# Altium integrated library Xilinx Aerospace and Defense.IntLib: 197 symbols (part 3 of 56)
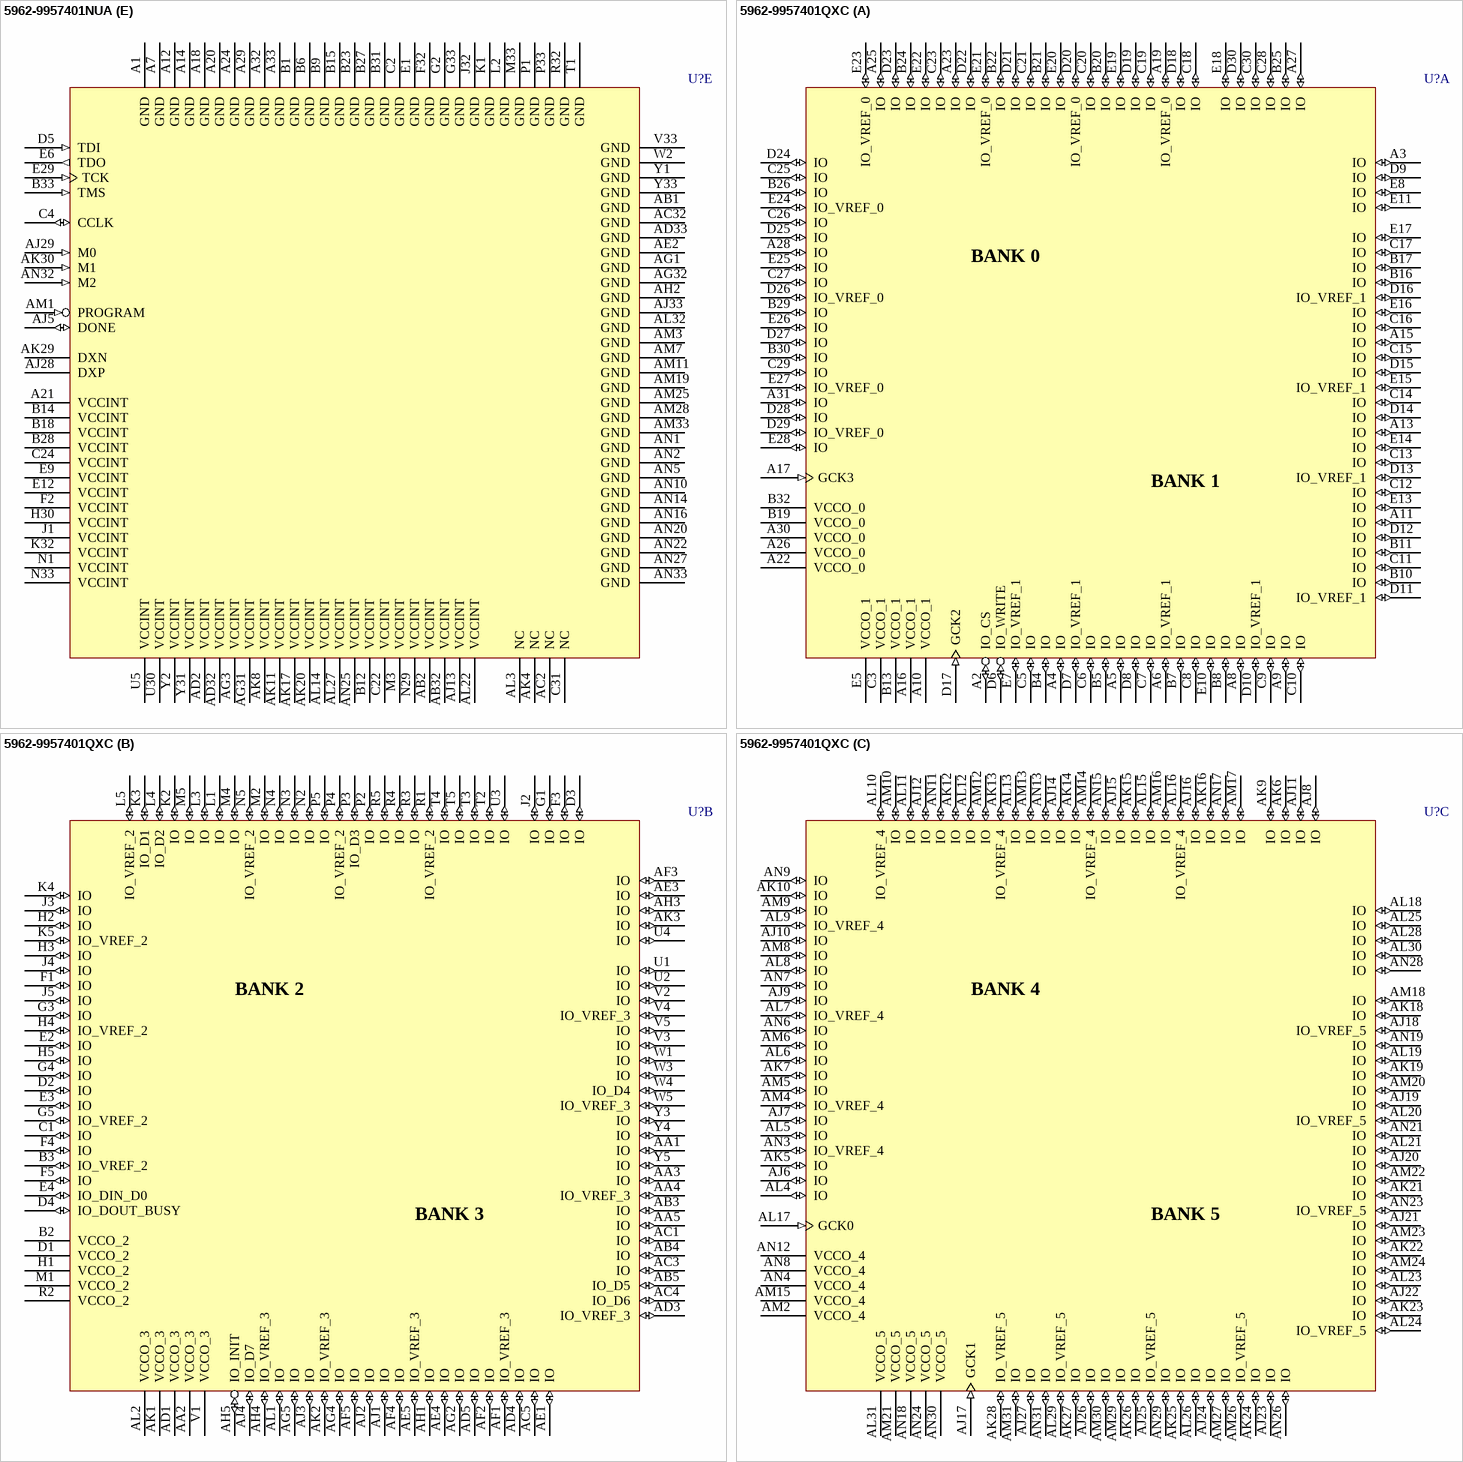
[diagram p320: symbols 5962-9957401NUA to 5962-9957401QXC]

## 5962-9957401NUA
designator U?
QPro Virtex 2.5V QML High-Reliability FPGA, SMD Number for XQV1000-4BG560N, 404 User I/Os, 560-Pin BGA, Speed Grade 4, MIL-PRF-38535 Grade; Published: 17-Nov-2009; DatasheetVersion: ver1.5, Dec-2001; PackageVersion: ver1.1, Apr-2001; PackageReference: BG560; Publisher: Altium Limited; PackageDescription: 560-Ball Metal Ball Grid Array (BG560); Code_JEDEC: MO-192-BAV-1 (Depopulated); ComponentLink1Description: QPro Virtex Datasheet; ComponentLink1URL: http://www.xilinx.com/support/documentation/data_sheets/ds002.pdf; ComponentLink2Description: BG560 Package Drawing; ComponentLink2URL: http://www.xilinx.com/support/documentation/package_specs/bg560.pdf; ComponentLink3Description: Xilinx.com Home; ComponentLink3URL: http://www.xilinx.com
footprint BG560 (BGA, 560-Leads, Body 42.5x42.5mm, Pitch 1.27mm)
signal-integrity model 5962-9957401_BG560 (Virtex)
part A pins: A2 IO_CS (io), A3 IO (io), A4 IO (io), A5 IO (io), A6 IO_VREF_1 (io), A8 IO (io), A9 IO (io), A10 VCCO_1 (power), A11 IO (io), A13 IO (io), A15 IO (io), A16 VCCO_1 (power), A17 GCK3 (in), A19 IO_VREF_0 (io), A22 VCCO_0 (power), A23 IO (io), A25 IO (io), A26 VCCO_0 (power), A27 IO (io), A28 IO (io), A30 VCCO_0 (power), A31 IO (io), B4 IO (io), B5 IO (io), B7 IO (io), B8 IO (io), B10 IO (io), B11 IO (io), B13 VCCO_1 (power), B16 IO (io), B17 IO (io), B19 VCCO_0 (power), B20 IO (io), B21 IO (io), B22 IO (io), B24 IO (io), B25 IO (io), B26 IO (io), B29 IO (io), B30 IO (io), B32 VCCO_0 (power), C3 VCCO_1 (power), C5 IO (io), C6 IO (io), C7 IO (io), C8 IO (io), C9 IO (io), C10 IO (io), C11 IO (io), C12 IO (io), C13 IO (io), C14 IO (io), C15 IO (io), C16 IO (io), C17 IO (io), C18 IO (io), C19 IO (io), C20 IO (io), C21 IO (io), C23 IO (io), C25 IO (io), C26 IO (io), C27 IO (io), C28 IO (io), C29 IO (io), C30 IO (io), D6 IO_WRITE (io), D7 IO_VREF_1 (io), D8 IO (io), D9 IO (io), D10 IO_VREF_1 (io), D11 IO_VREF_1 (io), D12 IO (io), D13 IO_VREF_1 (io), D14 IO (io), D15 IO (io), D16 IO_VREF_1 (io), D17 GCK2 (in), D18 IO (io), D19 IO (io), D20 IO_VREF_0 (io), D21 IO (io), D22 IO (io), D23 IO (io), D24 IO (io), D25 IO (io), D26 IO_VREF_0 (io), D27 IO (io), D28 IO (io), D29 IO_VREF_0 (io), D30 IO (io), E5 VCCO_1 (power), E7 IO_VREF_1 (io), E8 IO (io), E10 IO (io), E11 IO (io), E13 IO (io), E14 IO (io), E15 IO_VREF_1 (io), E16 IO (io), E17 IO (io), E18 IO (io), E19 IO (io), E20 IO (io), E21 IO_VREF_0 (io), E22 IO (io), E23 IO_VREF_0 (io), E24 IO_VREF_0 (io), E25 IO (io), E26 IO (io), E27 IO_VREF_0 (io), E28 IO (io)
part B pins: AA1 IO (io), AA2 VCCO_3 (power), AA3 IO (io), AA4 IO_VREF_3 (io), AA5 IO (io), AB3 IO (io), AB4 IO (io), AB5 IO_D5 (io), AC1 IO (io), AC3 IO (io), AC4 IO_D6 (io), AC5 IO (io), AD1 VCCO_3 (power), AD3 IO_VREF_3 (io), AD4 IO (io), AD5 IO (io), AE1 IO (io), AE3 IO (io), AE4 IO (io), AE5 IO_VREF_3 (io), AF1 IO_VREF_3 (io), AF2 IO (io), AF3 IO (io), AF4 IO (io), AF5 IO (io), AG2 IO (io), AG4 IO (io), AG5 IO (io), AH1 IO (io), AH3 IO (io), AH4 IO_VREF_3 (io), AH5 IO_INIT (io), AJ1 IO (io), AJ2 IO (io), AJ3 IO (io), AJ4 IO_D7 (io), AK1 VCCO_3 (power), AK2 IO_VREF_3 (io), AK3 IO (io), AL1 IO (io), AL2 VCCO_3 (power), B2 VCCO_2 (power), B3 IO_VREF_2 (io), C1 IO (io), D1 VCCO_2 (power), D2 IO (io), D3 IO (io), D4 IO_DOUT_BUSY (io), E2 IO (io), E3 IO (io), E4 IO_DIN_D0 (io), F1 IO (io), F3 IO (io), F4 IO (io), F5 IO (io), G1 IO (io), G3 IO (io), G4 IO (io), G5 IO_VREF_2 (io), H1 VCCO_2 (power), H2 IO (io), H3 IO (io), H4 IO_VREF_2 (io), H5 IO (io), J2 IO (io), J3 IO (io), J4 IO (io), J5 IO (io), K2 IO (io), K3 IO_D1 (io), K4 IO (io), K5 IO_VREF_2 (io), L1 IO (io), L3 IO (io), L4 IO_D2 (io), L5 IO_VREF_2 (io), M1 VCCO_2 (power), M2 IO (io), M4 IO (io), M5 IO (io), N2 IO (io), N3 IO (io), N4 IO (io), N5 IO_VREF_2 (io), P2 IO (io), P3 IO_D3 (io), P4 IO_VREF_2 (io), P5 IO (io), R1 IO_VREF_2 (io), R2 VCCO_2 (power), R3 IO (io), R4 IO (io), R5 IO (io), T2 IO (io), T3 IO (io), T4 IO (io), T5 IO (io), U1 IO (io), U2 IO (io), U3 IO (io), U4 IO (io), V1 VCCO_3 (power), V2 IO (io), V3 IO (io), V4 IO_VREF_3 (io), V5 IO (io), W1 IO (io), W3 IO (io), W4 IO_D4 (io), W5 IO_VREF_3 (io), Y3 IO (io), Y4 IO (io), Y5 IO (io)
part C pins: AJ6 IO (io), AJ7 IO (io), AJ8 IO (io), AJ9 IO (io), AJ10 IO (io), AJ11 IO (io), AJ12 IO (io), AJ14 IO (io), AJ15 IO (io), AJ16 IO (io), AJ17 GCK1 (in), AJ18 IO_VREF_5 (io), AJ19 IO (io), AJ20 IO (io), AJ21 IO (io), AJ22 IO (io), AJ23 IO (io), AJ24 IO (io), AJ25 IO_VREF_5 (io), AJ26 IO (io), AJ27 IO (io), AK5 IO (io), AK6 IO (io), AK7 IO (io), AK9 IO (io), AK10 IO (io), AK12 IO (io), AK13 IO_VREF_4 (io), AK14 IO (io), AK15 IO (io), AK16 IO (io), AK18 IO (io), AK19 IO (io), AK21 IO (io), AK22 IO (io), AK23 IO (io), AK24 IO (io), AK25 IO (io), AK26 IO (io), AK27 IO (io), AK28 IO_VREF_5 (io), AL4 IO (io), AL5 IO (io), AL6 IO (io), AL7 IO_VREF_4 (io), AL8 IO (io), AL9 IO_VREF_4 (io), AL10 IO_VREF_4 (io), AL11 IO (io), AL12 IO (io), AL13 IO (io), AL15 IO (io), AL16 IO_VREF_4 (io), AL17 GCK0 (in), AL18 IO (io), AL19 IO (io), AL20 IO_VREF_5 (io), AL21 IO (io), AL23 IO (io), AL24 IO_VREF_5 (io), AL25 IO (io), AL26 IO (io), AL28 IO (io), AL29 IO_VREF_5 (io), AL30 IO (io), AL31 VCCO_5 (power), AM2 VCCO_4 (power), AM4 IO_VREF_4 (io), AM5 IO (io), AM6 IO (io), AM8 IO (io), AM9 IO (io), AM10 IO (io), AM12 IO (io), AM13 IO (io), AM14 IO_VREF_4 (io), AM15 VCCO_4 (power), AM16 IO (io), AM17 IO (io), AM18 IO (io), AM20 IO (io), AM21 VCCO_5 (power), AM22 IO (io), AM23 IO (io), AM24 IO (io), AM26 IO_VREF_5 (io), AM27 IO (io), AM29 IO (io), AM30 IO (io), AM31 IO (io), AN3 IO_VREF_4 (io), AN4 VCCO_4 (power), AN6 IO (io), AN7 IO (io), AN8 VCCO_4 (power), AN9 IO (io), AN11 IO (io), AN12 VCCO_4 (power), AN13 IO (io), AN15 IO (io), AN17 IO (io), AN18 VCCO_5 (power), AN19 IO (io), AN21 IO (io), AN23 IO_VREF_5 (io), AN24 VCCO_5 (power), AN26 IO (io), AN28 IO (io), AN29 IO (io), AN30 VCCO_5 (power), AN31 IO (io)
part D pins: AA29 IO (io), AA30 IO_VREF_6 (io), AA31 IO (io), AA32 IO (io), AA33 IO (io), AB29 IO (io), AB30 IO (io), AB31 IO (io), AB33 VCCO_6 (power), AC29 IO (io), AC30 IO (io), AC31 IO (io), AC33 IO (io), AD29 IO (io), AD30 IO (io), AD31 IO_VREF_6 (io), AE29 IO_VREF_6 (io), AE30 IO (io), AE31 IO_VREF_6 (io), AE32 IO (io), AE33 IO (io), AF29 IO (io), AF30 IO (io), AF31 IO (io), AF32 IO (io), AF33 VCCO_6 (power), AG29 IO (io), AG30 IO (io), AG33 IO (io), AH29 IO (io), AH30 IO_VREF_6 (io), AH31 IO (io), AH32 IO (io), AH33 IO (io), AJ30 IO (io), AJ31 IO (io), AJ32 IO (io), AK31 IO (io), AK32 IO_VREF_6 (io), AK33 VCCO_6 (power), AL33 IO (io), AM32 VCCO_6 (power), C32 VCCO_7 (power), C33 IO (io), D31 IO_VREF_7 (io), D32 IO (io), D33 VCCO_7 (power), E30 IO (io), E31 IO_VREF_7 (io), E32 IO (io), E33 IO (io), F29 IO (io), F30 IO (io), F31 IO (io), F33 IO (io), G29 IO (io), G30 IO (io), G31 IO_VREF_7 (io), G32 IO (io), H29 IO (io), H31 IO (io), H32 IO_VREF_7 (io), H33 IO (io), J29 IO (io), J30 IO (io), J31 IO (io), J33 IO (io), K29 IO (io), K30 IO (io), K31 IO_VREF_7 (io), K33 VCCO_7 (power), L29 IO (io), L30 IO (io), L31 IO (io), L32 IO (io), L33 IO_VREF_7 (io), M29 IO (io), M30 IO (io), M31 IO (io), M32 IO (io), N30 IO (io), N31 IO (io), N32 VCCO_7 (power), P29 IO (io), P30 IO (io), P31 IO_VREF_7 (io), P32 IO (io), R29 IO (io), R30 IO (io), R31 IO (io), R33 IO (io), T29 IO (io), T30 IO (io), T31 IO_VREF_7 (io), T32 IO (io), T33 VCCO_7 (power), U29 IO (io), U31 IO (io), U32 IO (io), U33 IO (io), V29 IO_VREF_6 (io), V30 IO (io), V31 IO (io), V32 IO (io), W29 IO (io), W30 IO (io), W31 IO (io), W32 VCCO_6 (power), W33 IO (io), Y29 IO (io), Y30 IO (io), Y32 IO_VREF_6 (io)
part E pins: A1 GND (power), A7 GND (power), A12 GND (power), A14 GND (power), A18 GND (power), A20 GND (power), A21 VCCINT (power), A24 GND (power), A29 GND (power), A32 GND (power), A33 GND (power), AB1 GND (power), AB2 VCCINT (power), AB32 VCCINT (power), AC2 NC, AC32 GND (power), AD2 VCCINT (power), AD32 VCCINT (power), AD33 GND (power), AE2 GND (power), AG1 GND (power), AG3 VCCINT (power), AG31 VCCINT (power), AG32 GND (power), AH2 GND (power), AJ5 DONE (io), AJ13 VCCINT (power), AJ28 DXP, AJ29 M0 (in), AJ33 GND (power), AK4 NC, AK8 VCCINT (power), AK11 VCCINT (power), AK17 VCCINT (power), AK20 VCCINT (power), AK29 DXN, AK30 M1 (in), AL3 NC, AL14 VCCINT (power), AL22 VCCINT (power), AL27 VCCINT (power), AL32 GND (power), AM1 PROGRAM (in), AM3 GND (power), AM7 GND (power), AM11 GND (power), AM19 GND (power), AM25 GND (power), AM28 GND (power), AM33 GND (power), AN1 GND (power), AN2 GND (power), AN5 GND (power), AN10 GND (power), AN14 GND (power), AN16 GND (power), AN20 GND (power), AN22 GND (power), AN25 VCCINT (power), AN27 GND (power), AN32 M2 (in), AN33 GND (power), B1 GND (power), B6 GND (power), B9 GND (power), B12 VCCINT (power), B14 VCCINT (power), B15 GND (power), B18 VCCINT (power), B23 GND (power), B27 GND (power), B28 VCCINT (power), B31 GND (power), B33 TMS (in), C2 GND (power), C4 CCLK (io), C22 VCCINT (power), C24 VCCINT (power), C31 NC, D5 TDI (in), E1 GND (power), E6 TDO (out), E9 VCCINT (power), E12 VCCINT (power), E29 TCK (in), F2 VCCINT (power), F32 GND (power), G2 GND (power), G33 GND (power), H30 VCCINT (power), J1 VCCINT (power), J32 GND (power), K1 GND (power), K32 VCCINT (power), L2 GND (power), M3 VCCINT (power), M33 GND (power), N1 VCCINT (power), N29 VCCINT (power), N33 VCCINT (power), P1 GND (power), P33 GND (power), R32 GND (power), T1 GND (power), U5 VCCINT (power), U30 VCCINT (power), V33 GND (power), W2 GND (power), Y1 GND (power), Y2 VCCINT (power), Y31 VCCINT (power), Y33 GND (power)
part A text: BANK 0; BANK 1
part B text: BANK 2; BANK 3
part C text: BANK 4; BANK 5
part D text: BANK 6; BANK 7

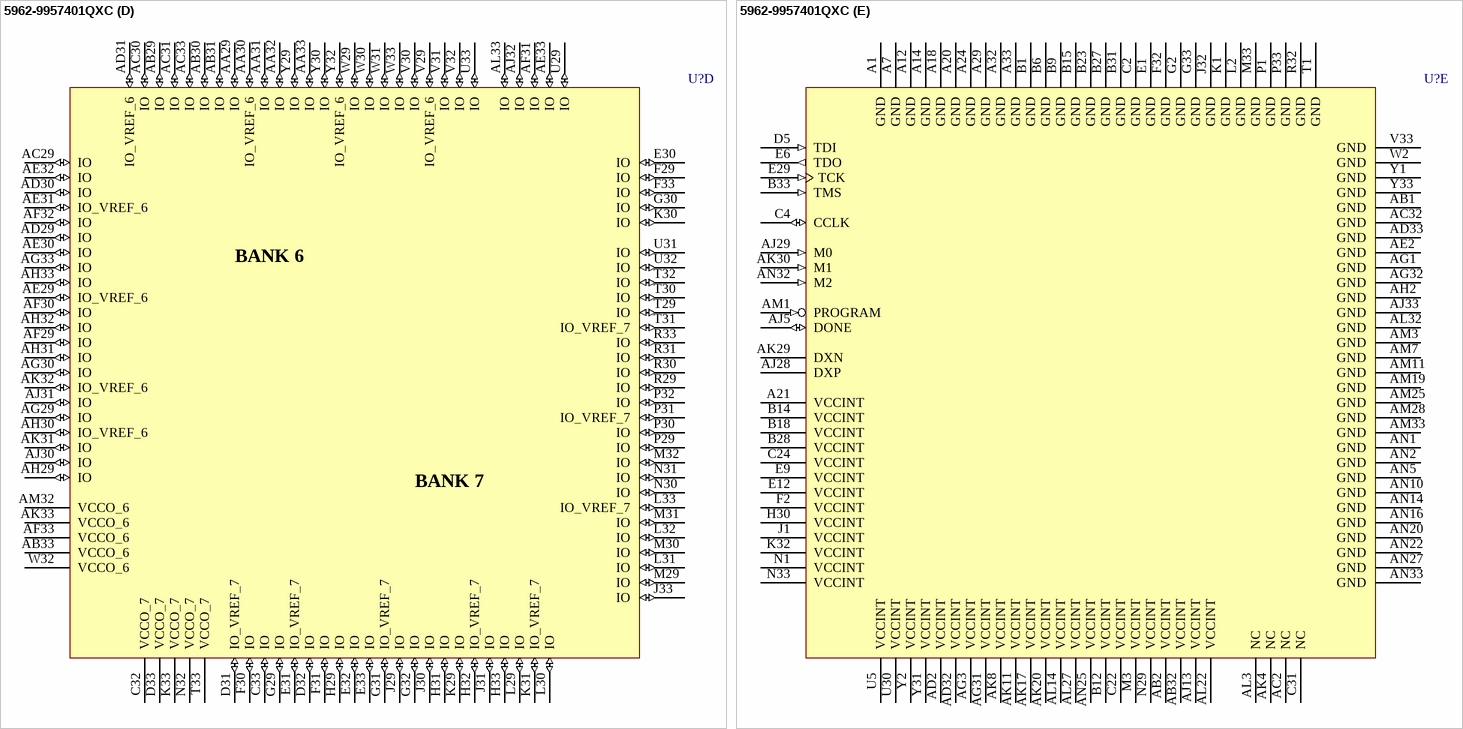
[diagram p16: symbol 5962-9957401QXC]

## 5962-9957401QXC
designator U?
QPro Virtex 2.5V QML High-Reliability FPGA, SMD Number for XQV1000-4CG560Q, 404 User I/Os, 560-Pin Ceramic Column Grid, Speed Grade 4, MIL-PRF-38535 Grade; Published: 17-Nov-2009; DatasheetVersion: ver1.5, Dec-2001; PackageVersion: ver1.01, Oct-2002; PackageReference: CG560; Publisher: Altium Limited; PackageDescription: 560-Pin Ceramic Column Grid Array 1.27 mm Pitch; ComponentLink1Description: QPro Virtex Datasheet; ComponentLink1URL: http://www.xilinx.com/support/documentation/data_sheets/ds002.pdf; ComponentLink2Description: Discontinuation Notice; ComponentLink2URL: http://www.xilinx.com/support/documentation/customer_notices/xcn07002.pdf; ComponentLink3Description: CG560 Package Drawing; ComponentLink3URL: http://www.xilinx.com/support/documentation/package_specs/cg560.pdf; ComponentLink4Description: Xilinx.com Home; ComponentLink4URL: http://www.xilinx.com
footprint CG560 (CGA, 560-Leads, Body 42.5x42.5mm, Pitch 1.27mm)
signal-integrity model 5962-9957401_CG560 (Virtex)
part A pins: A2 IO_CS (io), A3 IO (io), A4 IO (io), A5 IO (io), A6 IO_VREF_1 (io), A8 IO (io), A9 IO (io), A10 VCCO_1 (power), A11 IO (io), A13 IO (io), A15 IO (io), A16 VCCO_1 (power), A17 GCK3 (in), A19 IO_VREF_0 (io), A22 VCCO_0 (power), A23 IO (io), A25 IO (io), A26 VCCO_0 (power), A27 IO (io), A28 IO (io), A30 VCCO_0 (power), A31 IO (io), B4 IO (io), B5 IO (io), B7 IO (io), B8 IO (io), B10 IO (io), B11 IO (io), B13 VCCO_1 (power), B16 IO (io), B17 IO (io), B19 VCCO_0 (power), B20 IO (io), B21 IO (io), B22 IO (io), B24 IO (io), B25 IO (io), B26 IO (io), B29 IO (io), B30 IO (io), B32 VCCO_0 (power), C3 VCCO_1 (power), C5 IO (io), C6 IO (io), C7 IO (io), C8 IO (io), C9 IO (io), C10 IO (io), C11 IO (io), C12 IO (io), C13 IO (io), C14 IO (io), C15 IO (io), C16 IO (io), C17 IO (io), C18 IO (io), C19 IO (io), C20 IO (io), C21 IO (io), C23 IO (io), C25 IO (io), C26 IO (io), C27 IO (io), C28 IO (io), C29 IO (io), C30 IO (io), D6 IO_WRITE (io), D7 IO_VREF_1 (io), D8 IO (io), D9 IO (io), D10 IO_VREF_1 (io), D11 IO_VREF_1 (io), D12 IO (io), D13 IO_VREF_1 (io), D14 IO (io), D15 IO (io), D16 IO_VREF_1 (io), D17 GCK2 (in), D18 IO (io), D19 IO (io), D20 IO_VREF_0 (io), D21 IO (io), D22 IO (io), D23 IO (io), D24 IO (io), D25 IO (io), D26 IO_VREF_0 (io), D27 IO (io), D28 IO (io), D29 IO_VREF_0 (io), D30 IO (io), E5 VCCO_1 (power), E7 IO_VREF_1 (io), E8 IO (io), E10 IO (io), E11 IO (io), E13 IO (io), E14 IO (io), E15 IO_VREF_1 (io), E16 IO (io), E17 IO (io), E18 IO (io), E19 IO (io), E20 IO (io), E21 IO_VREF_0 (io), E22 IO (io), E23 IO_VREF_0 (io), E24 IO_VREF_0 (io), E25 IO (io), E26 IO (io), E27 IO_VREF_0 (io), E28 IO (io)
part B pins: AA1 IO (io), AA2 VCCO_3 (power), AA3 IO (io), AA4 IO_VREF_3 (io), AA5 IO (io), AB3 IO (io), AB4 IO (io), AB5 IO_D5 (io), AC1 IO (io), AC3 IO (io), AC4 IO_D6 (io), AC5 IO (io), AD1 VCCO_3 (power), AD3 IO_VREF_3 (io), AD4 IO (io), AD5 IO (io), AE1 IO (io), AE3 IO (io), AE4 IO (io), AE5 IO_VREF_3 (io), AF1 IO_VREF_3 (io), AF2 IO (io), AF3 IO (io), AF4 IO (io), AF5 IO (io), AG2 IO (io), AG4 IO (io), AG5 IO (io), AH1 IO (io), AH3 IO (io), AH4 IO_VREF_3 (io), AH5 IO_INIT (io), AJ1 IO (io), AJ2 IO (io), AJ3 IO (io), AJ4 IO_D7 (io), AK1 VCCO_3 (power), AK2 IO_VREF_3 (io), AK3 IO (io), AL1 IO (io), AL2 VCCO_3 (power), B2 VCCO_2 (power), B3 IO_VREF_2 (io), C1 IO (io), D1 VCCO_2 (power), D2 IO (io), D3 IO (io), D4 IO_DOUT_BUSY (io), E2 IO (io), E3 IO (io), E4 IO_DIN_D0 (io), F1 IO (io), F3 IO (io), F4 IO (io), F5 IO (io), G1 IO (io), G3 IO (io), G4 IO (io), G5 IO_VREF_2 (io), H1 VCCO_2 (power), H2 IO (io), H3 IO (io), H4 IO_VREF_2 (io), H5 IO (io), J2 IO (io), J3 IO (io), J4 IO (io), J5 IO (io), K2 IO (io), K3 IO_D1 (io), K4 IO (io), K5 IO_VREF_2 (io), L1 IO (io), L3 IO (io), L4 IO_D2 (io), L5 IO_VREF_2 (io), M1 VCCO_2 (power), M2 IO (io), M4 IO (io), M5 IO (io), N2 IO (io), N3 IO (io), N4 IO (io), N5 IO_VREF_2 (io), P2 IO (io), P3 IO_D3 (io), P4 IO_VREF_2 (io), P5 IO (io), R1 IO_VREF_2 (io), R2 VCCO_2 (power), R3 IO (io), R4 IO (io), R5 IO (io), T2 IO (io), T3 IO (io), T4 IO (io), T5 IO (io), U1 IO (io), U2 IO (io), U3 IO (io), U4 IO (io), V1 VCCO_3 (power), V2 IO (io), V3 IO (io), V4 IO_VREF_3 (io), V5 IO (io), W1 IO (io), W3 IO (io), W4 IO_D4 (io), W5 IO_VREF_3 (io), Y3 IO (io), Y4 IO (io), Y5 IO (io)
part C pins: AJ6 IO (io), AJ7 IO (io), AJ8 IO (io), AJ9 IO (io), AJ10 IO (io), AJ11 IO (io), AJ12 IO (io), AJ14 IO (io), AJ15 IO (io), AJ16 IO (io), AJ17 GCK1 (in), AJ18 IO_VREF_5 (io), AJ19 IO (io), AJ20 IO (io), AJ21 IO (io), AJ22 IO (io), AJ23 IO (io), AJ24 IO (io), AJ25 IO_VREF_5 (io), AJ26 IO (io), AJ27 IO (io), AK5 IO (io), AK6 IO (io), AK7 IO (io), AK9 IO (io), AK10 IO (io), AK12 IO (io), AK13 IO_VREF_4 (io), AK14 IO (io), AK15 IO (io), AK16 IO (io), AK18 IO (io), AK19 IO (io), AK21 IO (io), AK22 IO (io), AK23 IO (io), AK24 IO (io), AK25 IO (io), AK26 IO (io), AK27 IO (io), AK28 IO_VREF_5 (io), AL4 IO (io), AL5 IO (io), AL6 IO (io), AL7 IO_VREF_4 (io), AL8 IO (io), AL9 IO_VREF_4 (io), AL10 IO_VREF_4 (io), AL11 IO (io), AL12 IO (io), AL13 IO (io), AL15 IO (io), AL16 IO_VREF_4 (io), AL17 GCK0 (in), AL18 IO (io), AL19 IO (io), AL20 IO_VREF_5 (io), AL21 IO (io), AL23 IO (io), AL24 IO_VREF_5 (io), AL25 IO (io), AL26 IO (io), AL28 IO (io), AL29 IO_VREF_5 (io), AL30 IO (io), AL31 VCCO_5 (power), AM2 VCCO_4 (power), AM4 IO_VREF_4 (io), AM5 IO (io), AM6 IO (io), AM8 IO (io), AM9 IO (io), AM10 IO (io), AM12 IO (io), AM13 IO (io), AM14 IO_VREF_4 (io), AM15 VCCO_4 (power), AM16 IO (io), AM17 IO (io), AM18 IO (io), AM20 IO (io), AM21 VCCO_5 (power), AM22 IO (io), AM23 IO (io), AM24 IO (io), AM26 IO_VREF_5 (io), AM27 IO (io), AM29 IO (io), AM30 IO (io), AM31 IO (io), AN3 IO_VREF_4 (io), AN4 VCCO_4 (power), AN6 IO (io), AN7 IO (io), AN8 VCCO_4 (power), AN9 IO (io), AN11 IO (io), AN12 VCCO_4 (power), AN13 IO (io), AN15 IO (io), AN17 IO (io), AN18 VCCO_5 (power), AN19 IO (io), AN21 IO (io), AN23 IO_VREF_5 (io), AN24 VCCO_5 (power), AN26 IO (io), AN28 IO (io), AN29 IO (io), AN30 VCCO_5 (power), AN31 IO (io)
part D pins: AA29 IO (io), AA30 IO_VREF_6 (io), AA31 IO (io), AA32 IO (io), AA33 IO (io), AB29 IO (io), AB30 IO (io), AB31 IO (io), AB33 VCCO_6 (power), AC29 IO (io), AC30 IO (io), AC31 IO (io), AC33 IO (io), AD29 IO (io), AD30 IO (io), AD31 IO_VREF_6 (io), AE29 IO_VREF_6 (io), AE30 IO (io), AE31 IO_VREF_6 (io), AE32 IO (io), AE33 IO (io), AF29 IO (io), AF30 IO (io), AF31 IO (io), AF32 IO (io), AF33 VCCO_6 (power), AG29 IO (io), AG30 IO (io), AG33 IO (io), AH29 IO (io), AH30 IO_VREF_6 (io), AH31 IO (io), AH32 IO (io), AH33 IO (io), AJ30 IO (io), AJ31 IO (io), AJ32 IO (io), AK31 IO (io), AK32 IO_VREF_6 (io), AK33 VCCO_6 (power), AL33 IO (io), AM32 VCCO_6 (power), C32 VCCO_7 (power), C33 IO (io), D31 IO_VREF_7 (io), D32 IO (io), D33 VCCO_7 (power), E30 IO (io), E31 IO_VREF_7 (io), E32 IO (io), E33 IO (io), F29 IO (io), F30 IO (io), F31 IO (io), F33 IO (io), G29 IO (io), G30 IO (io), G31 IO_VREF_7 (io), G32 IO (io), H29 IO (io), H31 IO (io), H32 IO_VREF_7 (io), H33 IO (io), J29 IO (io), J30 IO (io), J31 IO (io), J33 IO (io), K29 IO (io), K30 IO (io), K31 IO_VREF_7 (io), K33 VCCO_7 (power), L29 IO (io), L30 IO (io), L31 IO (io), L32 IO (io), L33 IO_VREF_7 (io), M29 IO (io), M30 IO (io), M31 IO (io), M32 IO (io), N30 IO (io), N31 IO (io), N32 VCCO_7 (power), P29 IO (io), P30 IO (io), P31 IO_VREF_7 (io), P32 IO (io), R29 IO (io), R30 IO (io), R31 IO (io), R33 IO (io), T29 IO (io), T30 IO (io), T31 IO_VREF_7 (io), T32 IO (io), T33 VCCO_7 (power), U29 IO (io), U31 IO (io), U32 IO (io), U33 IO (io), V29 IO_VREF_6 (io), V30 IO (io), V31 IO (io), V32 IO (io), W29 IO (io), W30 IO (io), W31 IO (io), W32 VCCO_6 (power), W33 IO (io), Y29 IO (io), Y30 IO (io), Y32 IO_VREF_6 (io)
part E pins: A1 GND (power), A7 GND (power), A12 GND (power), A14 GND (power), A18 GND (power), A20 GND (power), A21 VCCINT (power), A24 GND (power), A29 GND (power), A32 GND (power), A33 GND (power), AB1 GND (power), AB2 VCCINT (power), AB32 VCCINT (power), AC2 NC, AC32 GND (power), AD2 VCCINT (power), AD32 VCCINT (power), AD33 GND (power), AE2 GND (power), AG1 GND (power), AG3 VCCINT (power), AG31 VCCINT (power), AG32 GND (power), AH2 GND (power), AJ5 DONE (io), AJ13 VCCINT (power), AJ28 DXP, AJ29 M0 (in), AJ33 GND (power), AK4 NC, AK8 VCCINT (power), AK11 VCCINT (power), AK17 VCCINT (power), AK20 VCCINT (power), AK29 DXN, AK30 M1 (in), AL3 NC, AL14 VCCINT (power), AL22 VCCINT (power), AL27 VCCINT (power), AL32 GND (power), AM1 PROGRAM (in), AM3 GND (power), AM7 GND (power), AM11 GND (power), AM19 GND (power), AM25 GND (power), AM28 GND (power), AM33 GND (power), AN1 GND (power), AN2 GND (power), AN5 GND (power), AN10 GND (power), AN14 GND (power), AN16 GND (power), AN20 GND (power), AN22 GND (power), AN25 VCCINT (power), AN27 GND (power), AN32 M2 (in), AN33 GND (power), B1 GND (power), B6 GND (power), B9 GND (power), B12 VCCINT (power), B14 VCCINT (power), B15 GND (power), B18 VCCINT (power), B23 GND (power), B27 GND (power), B28 VCCINT (power), B31 GND (power), B33 TMS (in), C2 GND (power), C4 CCLK (io), C22 VCCINT (power), C24 VCCINT (power), C31 NC, D5 TDI (in), E1 GND (power), E6 TDO (out), E9 VCCINT (power), E12 VCCINT (power), E29 TCK (in), F2 VCCINT (power), F32 GND (power), G2 GND (power), G33 GND (power), H30 VCCINT (power), J1 VCCINT (power), J32 GND (power), K1 GND (power), K32 VCCINT (power), L2 GND (power), M3 VCCINT (power), M33 GND (power), N1 VCCINT (power), N29 VCCINT (power), N33 VCCINT (power), P1 GND (power), P33 GND (power), R32 GND (power), T1 GND (power), U5 VCCINT (power), U30 VCCINT (power), V33 GND (power), W2 GND (power), Y1 GND (power), Y2 VCCINT (power), Y31 VCCINT (power), Y33 GND (power)
part A text: BANK 0; BANK 1
part B text: BANK 2; BANK 3
part C text: BANK 4; BANK 5
part D text: BANK 6; BANK 7

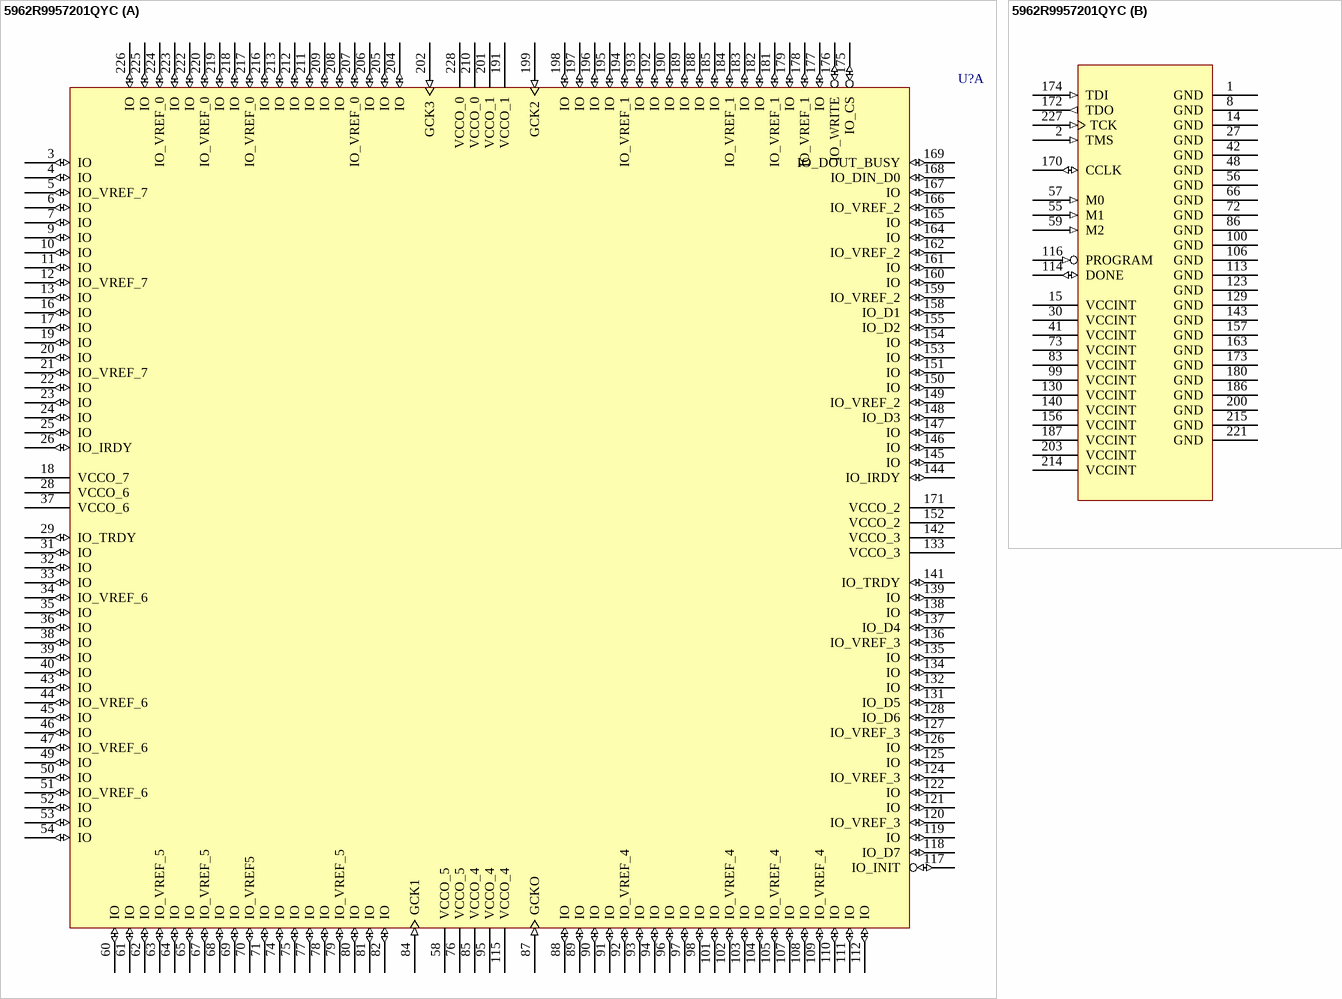
[diagram p17: symbol 5962R9957201QYC]

## 5962R9957201QYC
designator U?
QPro-R Virtex 2.5V Radiation Hardened FPGA, SMD Number for XQVR300-4CB228Q, 162 User I/Os, 228-Pin CQFP, Speed Grade 4, MIL-PRF-38535 Grade; Published: 17-Nov-2009; DatasheetVersion: ver2.0, Jan-2010; PackageVersion: ver1.0.1, May-2008; PackageReference: CB228; Publisher: Altium Limited; PackageDescription: 228-Pin Ceramic Brazed Quad Flat Pack (CB228); ComponentLink1Description: QPro Virtex Datasheet; ComponentLink1URL: http://www.xilinx.com/support/documentation/data_sheets/ds028.pdf; ComponentLink2Description: CB228 Package Drawing; ComponentLink2URL: http://www.xilinx.com/support/documentation/package_specs/cb228.pdf; ComponentLink3Description: Xilinx.com Home; ComponentLink3URL: http://www.xilinx.com
footprint CB228_N (CQFP, 228-Leads, Body 39x39mm; Pitch 0.635mm, Gullwing Leadform, IPC Medium Density)
footprint CB228_L (CQFP, 228-Leads, Body 39x39mm; Pitch 0.635mm, Gullwing Leadform, IPC High Density)
footprint CB228_M (CQFP, 228-Leads, Body 39x39mm; Pitch 0.635mm, Gullwing Leadform, IPC Low Density)
signal-integrity model 5962R9957201_CB228 (Virtex)
part A pins: 3 IO (io), 4 IO (io), 5 IO_VREF_7 (io), 6 IO (io), 7 IO (io), 9 IO (io), 10 IO (io), 11 IO (io), 12 IO_VREF_7 (io), 13 IO (io), 16 IO (io), 17 IO (io), 18 VCCO_7 (power), 19 IO (io), 20 IO (io), 21 IO_VREF_7 (io), 22 IO (io), 23 IO (io), 24 IO (io), 25 IO (io), 26 IO_IRDY (io), 28 VCCO_6 (power), 29 IO_TRDY (io), 31 IO (io), 32 IO (io), 33 IO (io), 34 IO_VREF_6 (io), 35 IO (io), 36 IO (io), 37 VCCO_6 (power), 38 IO (io), 39 IO (io), 40 IO (io), 43 IO (io), 44 IO_VREF_6 (io), 45 IO (io), 46 IO (io), 47 IO_VREF_6 (io), 49 IO (io), 50 IO (io), 51 IO_VREF_6 (io), 52 IO (io), 53 IO (io), 54 IO (io), 58 VCCO_5 (power), 60 IO (io), 61 IO (io), 62 IO (io), 63 IO_VREF_5 (io), 64 IO (io), 65 IO (io), 67 IO_VREF_5 (io), 68 IO (io), 69 IO (io), 70 IO_VREF5 (io), 71 IO (io), 74 IO (io), 75 IO (io), 76 VCCO_5 (power), 77 IO (io), 78 IO (io), 79 IO_VREF_5 (io), 80 IO (io), 81 IO (io), 82 IO (io), 84 GCK1 (in), 85 VCCO_4 (power), 87 GCKO (in), 88 IO (io), 89 IO (io), 90 IO (io), 91 IO (io), 92 IO_VREF_4 (io), 93 IO (io), 94 IO (io), 95 VCCO_4 (power), 96 IO (io), 97 IO (io), 98 IO (io), 101 IO (io), 102 IO_VREF_4 (io), 103 IO (io), 104 IO (io), 105 IO_VREF_4 (io), 107 IO (io), 108 IO (io), 109 IO_VREF_4 (io), 110 IO (io), 111 IO (io), 112 IO (io), 115 VCCO_4 (power), 117 IO_INIT (io), 118 IO_D7 (io), 119 IO (io), 120 IO_VREF_3 (io), 121 IO (io), 122 IO (io), 124 IO_VREF_3 (io), 125 IO (io), 126 IO (io), 127 IO_VREF_3 (io), 128 IO_D6 (io), 131 IO_D5 (io), 132 IO (io), 133 VCCO_3 (power), 134 IO (io), 135 IO (io), 136 IO_VREF_3 (io), 137 IO_D4 (io), 138 IO (io), 139 IO (io), 141 IO_TRDY (io), 142 VCCO_3 (power), 144 IO_IRDY (io), 145 IO (io), 146 IO (io), 147 IO (io), 148 IO_D3 (io), 149 IO_VREF_2 (io), 150 IO (io), 151 IO (io), 152 VCCO_2 (power), 153 IO (io), 154 IO (io), 155 IO_D2 (io), 158 IO_D1 (io), 159 IO_VREF_2 (io), 160 IO (io), 161 IO (io), 162 IO_VREF_2 (io), 164 IO (io), 165 IO (io), 166 IO_VREF_2 (io), 167 IO (io), 168 IO_DIN_D0 (io), 169 IO_DOUT_BUSY (io), 171 VCCO_2 (power), 175 IO_CS (io), 176 IO_WRITE (io), 177 IO (io), 178 IO_VREF_1 (io), 179 IO (io), 181 IO_VREF_1 (io), 182 IO (io), 183 IO (io), 184 IO_VREF_1 (io), 185 IO (io), 188 IO (io), 189 IO (io), 190 IO (io), 191 VCCO_1 (power), 192 IO (io), 193 IO (io), 194 IO_VREF_1 (io), 195 IO (io), 196 IO (io), 197 IO (io), 198 IO (io), 199 GCK2 (in), 201 VCCO_1 (power), 202 GCK3 (in), 204 IO (io), 205 IO (io), 206 IO (io), 207 IO_VREF_0 (io), 208 IO (io), 209 IO (io), 210 VCCO_0 (power), 211 IO (io), 212 IO (io), 213 IO (io), 216 IO (io), 217 IO_VREF_0 (io), 218 IO (io), 219 IO (io), 220 IO_VREF_0 (io), 222 IO (io), 223 IO (io), 224 IO_VREF_0 (io), 225 IO (io), 226 IO (io), 228 VCCO_0 (power)
part B pins: 1 GND (power), 2 TMS (in), 8 GND (power), 14 GND (power), 15 VCCINT (power), 27 GND (power), 30 VCCINT (power), 41 VCCINT (power), 42 GND (power), 48 GND (power), 55 M1 (in), 56 GND (power), 57 M0 (in), 59 M2 (in), 66 GND (power), 72 GND (power), 73 VCCINT (power), 83 VCCINT (power), 86 GND (power), 99 VCCINT (power), 100 GND (power), 106 GND (power), 113 GND (power), 114 DONE (io), 116 PROGRAM (in), 123 GND (power), 129 GND (power), 130 VCCINT (power), 140 VCCINT (power), 143 GND (power), 156 VCCINT (power), 157 GND (power), 163 GND (power), 170 CCLK (io), 172 TDO (out), 173 GND (power), 174 TDI (in), 180 GND (power), 186 GND (power), 187 VCCINT (power), 200 GND (power), 203 VCCINT (power), 214 VCCINT (power), 215 GND (power), 221 GND (power), 227 TCK (in)

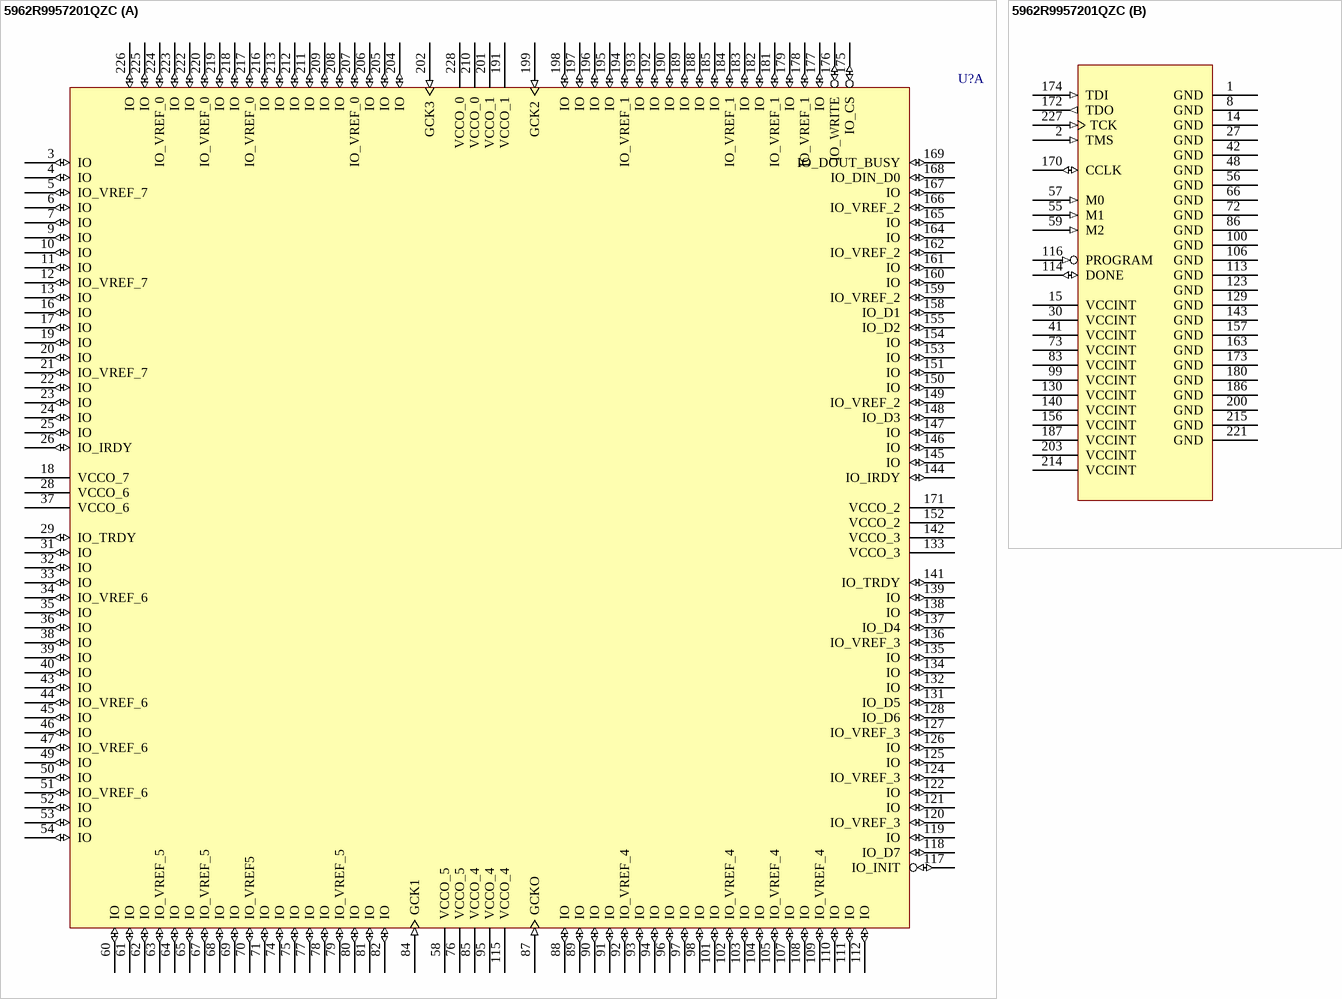
[diagram p18: symbol 5962R9957201QZC]

## 5962R9957201QZC
designator U?
QPro-R Virtex 2.5V Radiation Hardened FPGA, SMD Number for XQVR300-4CB228Q, 162 User I/Os, 228-Pin CQFP, Speed Grade 4, MIL-PRF-38535 Grade; Published: 17-Nov-2009; DatasheetVersion: ver2.0, Jan-2010; PackageVersion: ver1.0.1, May-2008; PackageReference: CB228; Publisher: Altium Limited; PackageDescription: 228-Pin Ceramic Brazed Quad Flat Pack (CB228); ComponentLink1Description: QPro Virtex Datasheet; ComponentLink1URL: http://www.xilinx.com/support/documentation/data_sheets/ds028.pdf; ComponentLink2Description: CB228 Package Drawing; ComponentLink2URL: http://www.xilinx.com/support/documentation/package_specs/cb228.pdf; ComponentLink3Description: Xilinx.com Home; ComponentLink3URL: http://www.xilinx.com
footprint CB228_N (CQFP, 228-Leads, Body 39x39mm; Pitch 0.635mm, Gullwing Leadform, IPC Medium Density)
footprint CB228_L (CQFP, 228-Leads, Body 39x39mm; Pitch 0.635mm, Gullwing Leadform, IPC High Density)
footprint CB228_M (CQFP, 228-Leads, Body 39x39mm; Pitch 0.635mm, Gullwing Leadform, IPC Low Density)
signal-integrity model 5962R9957201_CB228 (Virtex)
part A pins: 3 IO (io), 4 IO (io), 5 IO_VREF_7 (io), 6 IO (io), 7 IO (io), 9 IO (io), 10 IO (io), 11 IO (io), 12 IO_VREF_7 (io), 13 IO (io), 16 IO (io), 17 IO (io), 18 VCCO_7 (power), 19 IO (io), 20 IO (io), 21 IO_VREF_7 (io), 22 IO (io), 23 IO (io), 24 IO (io), 25 IO (io), 26 IO_IRDY (io), 28 VCCO_6 (power), 29 IO_TRDY (io), 31 IO (io), 32 IO (io), 33 IO (io), 34 IO_VREF_6 (io), 35 IO (io), 36 IO (io), 37 VCCO_6 (power), 38 IO (io), 39 IO (io), 40 IO (io), 43 IO (io), 44 IO_VREF_6 (io), 45 IO (io), 46 IO (io), 47 IO_VREF_6 (io), 49 IO (io), 50 IO (io), 51 IO_VREF_6 (io), 52 IO (io), 53 IO (io), 54 IO (io), 58 VCCO_5 (power), 60 IO (io), 61 IO (io), 62 IO (io), 63 IO_VREF_5 (io), 64 IO (io), 65 IO (io), 67 IO_VREF_5 (io), 68 IO (io), 69 IO (io), 70 IO_VREF5 (io), 71 IO (io), 74 IO (io), 75 IO (io), 76 VCCO_5 (power), 77 IO (io), 78 IO (io), 79 IO_VREF_5 (io), 80 IO (io), 81 IO (io), 82 IO (io), 84 GCK1 (in), 85 VCCO_4 (power), 87 GCKO (in), 88 IO (io), 89 IO (io), 90 IO (io), 91 IO (io), 92 IO_VREF_4 (io), 93 IO (io), 94 IO (io), 95 VCCO_4 (power), 96 IO (io), 97 IO (io), 98 IO (io), 101 IO (io), 102 IO_VREF_4 (io), 103 IO (io), 104 IO (io), 105 IO_VREF_4 (io), 107 IO (io), 108 IO (io), 109 IO_VREF_4 (io), 110 IO (io), 111 IO (io), 112 IO (io), 115 VCCO_4 (power), 117 IO_INIT (io), 118 IO_D7 (io), 119 IO (io), 120 IO_VREF_3 (io), 121 IO (io), 122 IO (io), 124 IO_VREF_3 (io), 125 IO (io), 126 IO (io), 127 IO_VREF_3 (io), 128 IO_D6 (io), 131 IO_D5 (io), 132 IO (io), 133 VCCO_3 (power), 134 IO (io), 135 IO (io), 136 IO_VREF_3 (io), 137 IO_D4 (io), 138 IO (io), 139 IO (io), 141 IO_TRDY (io), 142 VCCO_3 (power), 144 IO_IRDY (io), 145 IO (io), 146 IO (io), 147 IO (io), 148 IO_D3 (io), 149 IO_VREF_2 (io), 150 IO (io), 151 IO (io), 152 VCCO_2 (power), 153 IO (io), 154 IO (io), 155 IO_D2 (io), 158 IO_D1 (io), 159 IO_VREF_2 (io), 160 IO (io), 161 IO (io), 162 IO_VREF_2 (io), 164 IO (io), 165 IO (io), 166 IO_VREF_2 (io), 167 IO (io), 168 IO_DIN_D0 (io), 169 IO_DOUT_BUSY (io), 171 VCCO_2 (power), 175 IO_CS (io), 176 IO_WRITE (io), 177 IO (io), 178 IO_VREF_1 (io), 179 IO (io), 181 IO_VREF_1 (io), 182 IO (io), 183 IO (io), 184 IO_VREF_1 (io), 185 IO (io), 188 IO (io), 189 IO (io), 190 IO (io), 191 VCCO_1 (power), 192 IO (io), 193 IO (io), 194 IO_VREF_1 (io), 195 IO (io), 196 IO (io), 197 IO (io), 198 IO (io), 199 GCK2 (in), 201 VCCO_1 (power), 202 GCK3 (in), 204 IO (io), 205 IO (io), 206 IO (io), 207 IO_VREF_0 (io), 208 IO (io), 209 IO (io), 210 VCCO_0 (power), 211 IO (io), 212 IO (io), 213 IO (io), 216 IO (io), 217 IO_VREF_0 (io), 218 IO (io), 219 IO (io), 220 IO_VREF_0 (io), 222 IO (io), 223 IO (io), 224 IO_VREF_0 (io), 225 IO (io), 226 IO (io), 228 VCCO_0 (power)
part B pins: 1 GND (power), 2 TMS (in), 8 GND (power), 14 GND (power), 15 VCCINT (power), 27 GND (power), 30 VCCINT (power), 41 VCCINT (power), 42 GND (power), 48 GND (power), 55 M1 (in), 56 GND (power), 57 M0 (in), 59 M2 (in), 66 GND (power), 72 GND (power), 73 VCCINT (power), 83 VCCINT (power), 86 GND (power), 99 VCCINT (power), 100 GND (power), 106 GND (power), 113 GND (power), 114 DONE (io), 116 PROGRAM (in), 123 GND (power), 129 GND (power), 130 VCCINT (power), 140 VCCINT (power), 143 GND (power), 156 VCCINT (power), 157 GND (power), 163 GND (power), 170 CCLK (io), 172 TDO (out), 173 GND (power), 174 TDI (in), 180 GND (power), 186 GND (power), 187 VCCINT (power), 200 GND (power), 203 VCCINT (power), 214 VCCINT (power), 215 GND (power), 221 GND (power), 227 TCK (in)

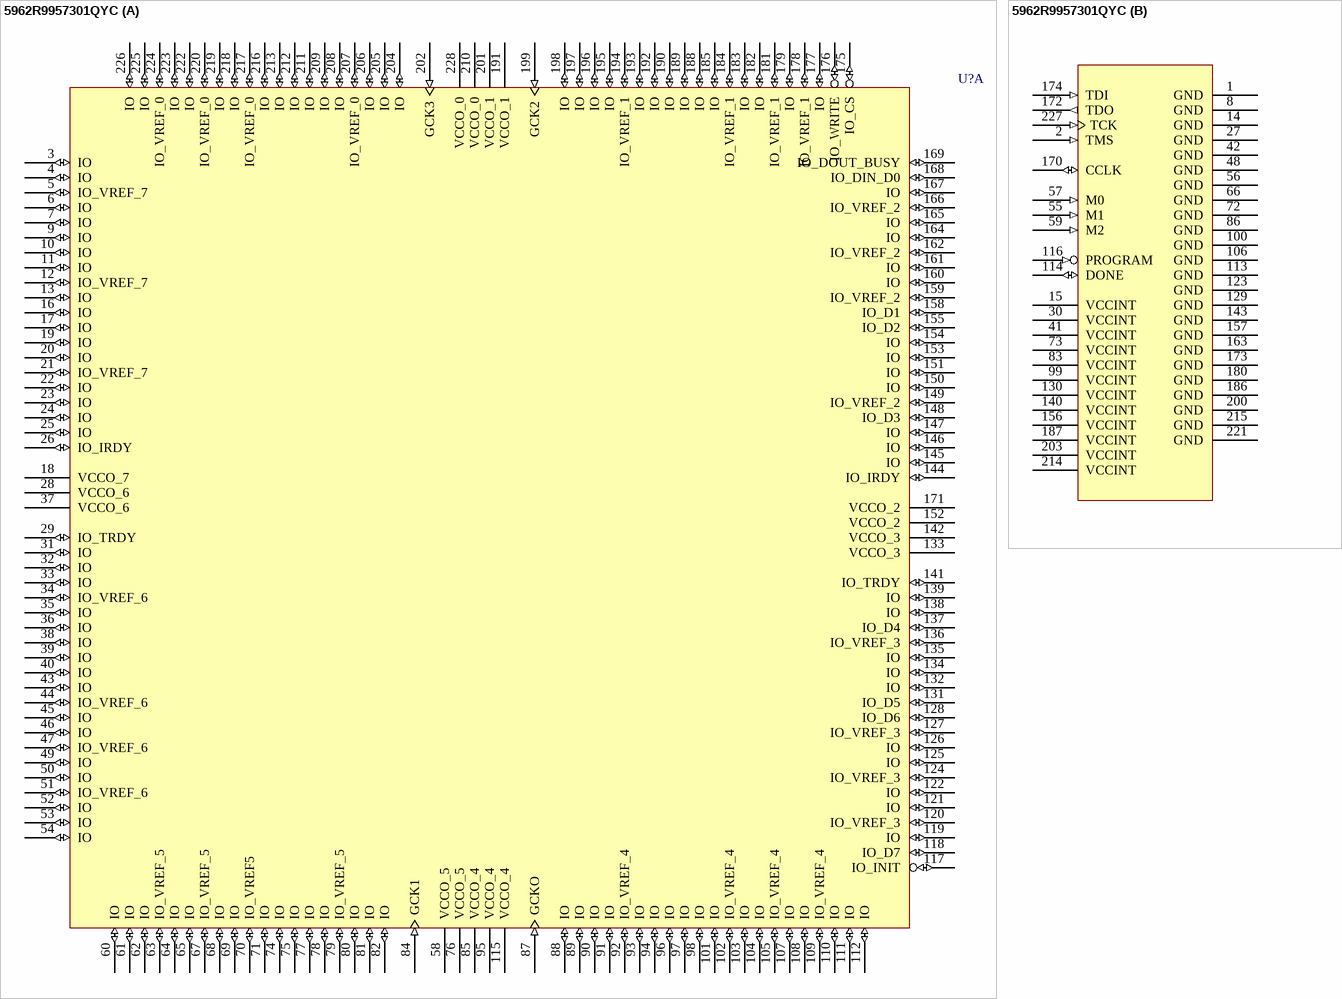
[diagram p19: symbol 5962R9957301QYC]

## 5962R9957301QYC
designator U?
QPro-R Virtex 2.5V Radiation Hardened FPGA, SMD Number for XQVR600-4CB228Q, 162 User I/Os, 228-Pin CQFP, Speed Grade 4, MIL-PRF-38535 Grade; Published: 17-Nov-2009; DatasheetVersion: ver2.0, Jan-2010; PackageVersion: ver1.0.1, May-2008; PackageReference: CB228; Publisher: Altium Limited; PackageDescription: 228-Pin Ceramic Brazed Quad Flat Pack (CB228); ComponentLink1Description: QPro Virtex Datasheet; ComponentLink1URL: http://www.xilinx.com/support/documentation/data_sheets/ds028.pdf; ComponentLink2Description: CB228 Package Drawing; ComponentLink2URL: http://www.xilinx.com/support/documentation/package_specs/cb228.pdf; ComponentLink3Description: Xilinx.com Home; ComponentLink3URL: http://www.xilinx.com
footprint CB228_N (CQFP, 228-Leads, Body 39x39mm; Pitch 0.635mm, Gullwing Leadform, IPC Medium Density)
footprint CB228_L (CQFP, 228-Leads, Body 39x39mm; Pitch 0.635mm, Gullwing Leadform, IPC High Density)
footprint CB228_M (CQFP, 228-Leads, Body 39x39mm; Pitch 0.635mm, Gullwing Leadform, IPC Low Density)
signal-integrity model 5962R9957301_CB228 (Virtex)
part A pins: 3 IO (io), 4 IO (io), 5 IO_VREF_7 (io), 6 IO (io), 7 IO (io), 9 IO (io), 10 IO (io), 11 IO (io), 12 IO_VREF_7 (io), 13 IO (io), 16 IO (io), 17 IO (io), 18 VCCO_7 (power), 19 IO (io), 20 IO (io), 21 IO_VREF_7 (io), 22 IO (io), 23 IO (io), 24 IO (io), 25 IO (io), 26 IO_IRDY (io), 28 VCCO_6 (power), 29 IO_TRDY (io), 31 IO (io), 32 IO (io), 33 IO (io), 34 IO_VREF_6 (io), 35 IO (io), 36 IO (io), 37 VCCO_6 (power), 38 IO (io), 39 IO (io), 40 IO (io), 43 IO (io), 44 IO_VREF_6 (io), 45 IO (io), 46 IO (io), 47 IO_VREF_6 (io), 49 IO (io), 50 IO (io), 51 IO_VREF_6 (io), 52 IO (io), 53 IO (io), 54 IO (io), 58 VCCO_5 (power), 60 IO (io), 61 IO (io), 62 IO (io), 63 IO_VREF_5 (io), 64 IO (io), 65 IO (io), 67 IO_VREF_5 (io), 68 IO (io), 69 IO (io), 70 IO_VREF5 (io), 71 IO (io), 74 IO (io), 75 IO (io), 76 VCCO_5 (power), 77 IO (io), 78 IO (io), 79 IO_VREF_5 (io), 80 IO (io), 81 IO (io), 82 IO (io), 84 GCK1 (in), 85 VCCO_4 (power), 87 GCKO (in), 88 IO (io), 89 IO (io), 90 IO (io), 91 IO (io), 92 IO_VREF_4 (io), 93 IO (io), 94 IO (io), 95 VCCO_4 (power), 96 IO (io), 97 IO (io), 98 IO (io), 101 IO (io), 102 IO_VREF_4 (io), 103 IO (io), 104 IO (io), 105 IO_VREF_4 (io), 107 IO (io), 108 IO (io), 109 IO_VREF_4 (io), 110 IO (io), 111 IO (io), 112 IO (io), 115 VCCO_4 (power), 117 IO_INIT (io), 118 IO_D7 (io), 119 IO (io), 120 IO_VREF_3 (io), 121 IO (io), 122 IO (io), 124 IO_VREF_3 (io), 125 IO (io), 126 IO (io), 127 IO_VREF_3 (io), 128 IO_D6 (io), 131 IO_D5 (io), 132 IO (io), 133 VCCO_3 (power), 134 IO (io), 135 IO (io), 136 IO_VREF_3 (io), 137 IO_D4 (io), 138 IO (io), 139 IO (io), 141 IO_TRDY (io), 142 VCCO_3 (power), 144 IO_IRDY (io), 145 IO (io), 146 IO (io), 147 IO (io), 148 IO_D3 (io), 149 IO_VREF_2 (io), 150 IO (io), 151 IO (io), 152 VCCO_2 (power), 153 IO (io), 154 IO (io), 155 IO_D2 (io), 158 IO_D1 (io), 159 IO_VREF_2 (io), 160 IO (io), 161 IO (io), 162 IO_VREF_2 (io), 164 IO (io), 165 IO (io), 166 IO_VREF_2 (io), 167 IO (io), 168 IO_DIN_D0 (io), 169 IO_DOUT_BUSY (io), 171 VCCO_2 (power), 175 IO_CS (io), 176 IO_WRITE (io), 177 IO (io), 178 IO_VREF_1 (io), 179 IO (io), 181 IO_VREF_1 (io), 182 IO (io), 183 IO (io), 184 IO_VREF_1 (io), 185 IO (io), 188 IO (io), 189 IO (io), 190 IO (io), 191 VCCO_1 (power), 192 IO (io), 193 IO (io), 194 IO_VREF_1 (io), 195 IO (io), 196 IO (io), 197 IO (io), 198 IO (io), 199 GCK2 (in), 201 VCCO_1 (power), 202 GCK3 (in), 204 IO (io), 205 IO (io), 206 IO (io), 207 IO_VREF_0 (io), 208 IO (io), 209 IO (io), 210 VCCO_0 (power), 211 IO (io), 212 IO (io), 213 IO (io), 216 IO (io), 217 IO_VREF_0 (io), 218 IO (io), 219 IO (io), 220 IO_VREF_0 (io), 222 IO (io), 223 IO (io), 224 IO_VREF_0 (io), 225 IO (io), 226 IO (io), 228 VCCO_0 (power)
part B pins: 1 GND (power), 2 TMS (in), 8 GND (power), 14 GND (power), 15 VCCINT (power), 27 GND (power), 30 VCCINT (power), 41 VCCINT (power), 42 GND (power), 48 GND (power), 55 M1 (in), 56 GND (power), 57 M0 (in), 59 M2 (in), 66 GND (power), 72 GND (power), 73 VCCINT (power), 83 VCCINT (power), 86 GND (power), 99 VCCINT (power), 100 GND (power), 106 GND (power), 113 GND (power), 114 DONE (io), 116 PROGRAM (in), 123 GND (power), 129 GND (power), 130 VCCINT (power), 140 VCCINT (power), 143 GND (power), 156 VCCINT (power), 157 GND (power), 163 GND (power), 170 CCLK (io), 172 TDO (out), 173 GND (power), 174 TDI (in), 180 GND (power), 186 GND (power), 187 VCCINT (power), 200 GND (power), 203 VCCINT (power), 214 VCCINT (power), 215 GND (power), 221 GND (power), 227 TCK (in)

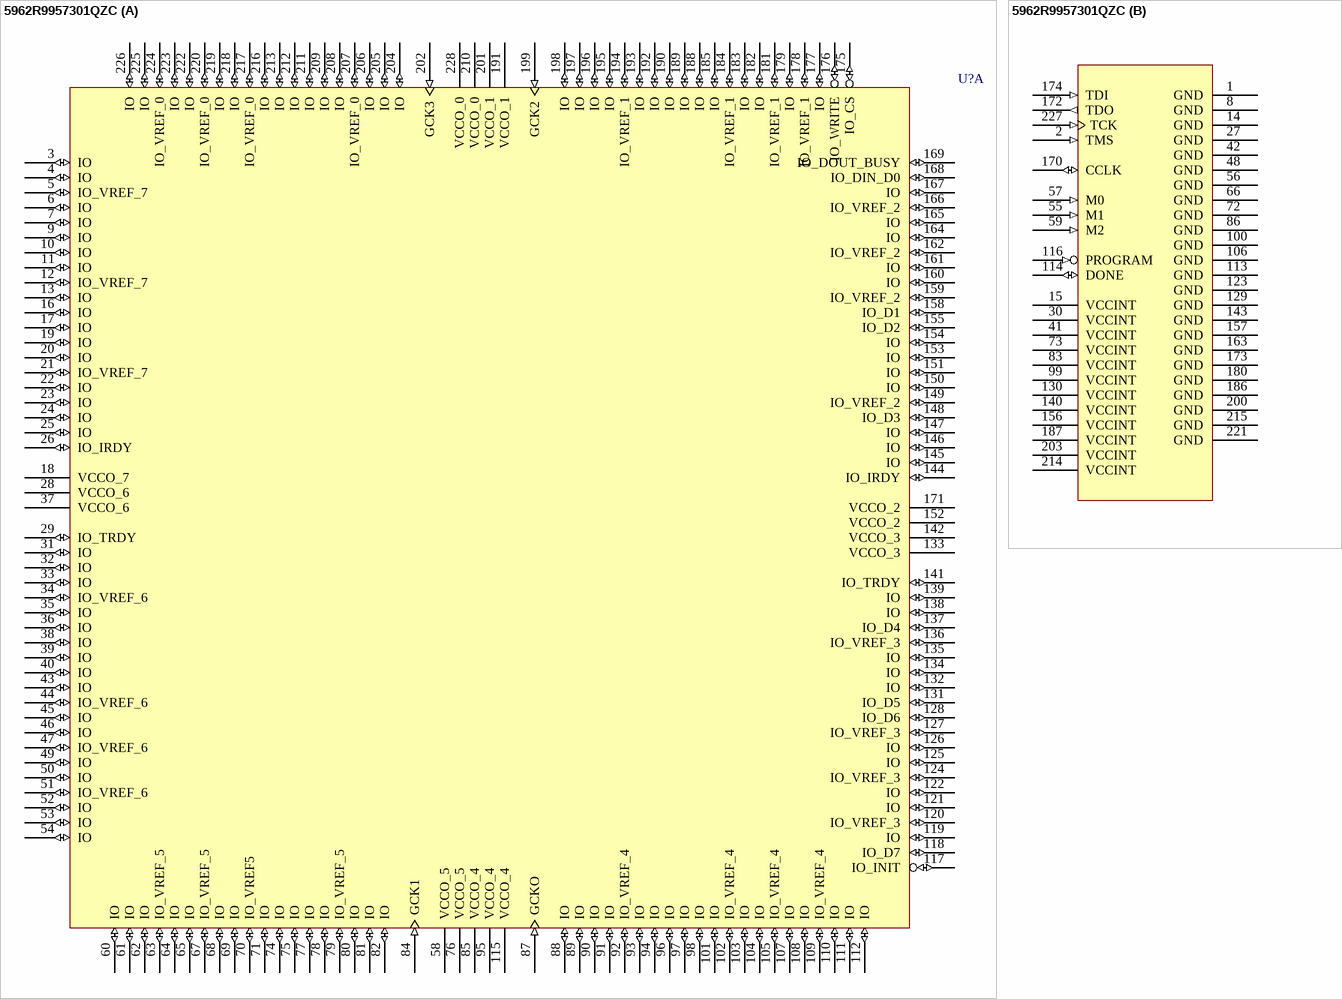
[diagram p20: symbol 5962R9957301QZC]

## 5962R9957301QZC
designator U?
QPro-R Virtex 2.5V Radiation Hardened FPGA, SMD Number for XQVR600-4CB228Q, 162 User I/Os, 228-Pin CQFP, Speed Grade 4, MIL-PRF-38535 Grade; Published: 17-Nov-2009; DatasheetVersion: ver2.0, Jan-2010; PackageVersion: ver1.0.1, May-2008; PackageReference: CB228; Publisher: Altium Limited; PackageDescription: 228-Pin Ceramic Brazed Quad Flat Pack (CB228); ComponentLink1Description: QPro Virtex Datasheet; ComponentLink1URL: http://www.xilinx.com/support/documentation/data_sheets/ds028.pdf; ComponentLink2Description: CB228 Package Drawing; ComponentLink2URL: http://www.xilinx.com/support/documentation/package_specs/cb228.pdf; ComponentLink3Description: Xilinx.com Home; ComponentLink3URL: http://www.xilinx.com
footprint CB228_N (CQFP, 228-Leads, Body 39x39mm; Pitch 0.635mm, Gullwing Leadform, IPC Medium Density)
footprint CB228_L (CQFP, 228-Leads, Body 39x39mm; Pitch 0.635mm, Gullwing Leadform, IPC High Density)
footprint CB228_M (CQFP, 228-Leads, Body 39x39mm; Pitch 0.635mm, Gullwing Leadform, IPC Low Density)
signal-integrity model 5962R9957301_CB228 (Virtex)
part A pins: 3 IO (io), 4 IO (io), 5 IO_VREF_7 (io), 6 IO (io), 7 IO (io), 9 IO (io), 10 IO (io), 11 IO (io), 12 IO_VREF_7 (io), 13 IO (io), 16 IO (io), 17 IO (io), 18 VCCO_7 (power), 19 IO (io), 20 IO (io), 21 IO_VREF_7 (io), 22 IO (io), 23 IO (io), 24 IO (io), 25 IO (io), 26 IO_IRDY (io), 28 VCCO_6 (power), 29 IO_TRDY (io), 31 IO (io), 32 IO (io), 33 IO (io), 34 IO_VREF_6 (io), 35 IO (io), 36 IO (io), 37 VCCO_6 (power), 38 IO (io), 39 IO (io), 40 IO (io), 43 IO (io), 44 IO_VREF_6 (io), 45 IO (io), 46 IO (io), 47 IO_VREF_6 (io), 49 IO (io), 50 IO (io), 51 IO_VREF_6 (io), 52 IO (io), 53 IO (io), 54 IO (io), 58 VCCO_5 (power), 60 IO (io), 61 IO (io), 62 IO (io), 63 IO_VREF_5 (io), 64 IO (io), 65 IO (io), 67 IO_VREF_5 (io), 68 IO (io), 69 IO (io), 70 IO_VREF5 (io), 71 IO (io), 74 IO (io), 75 IO (io), 76 VCCO_5 (power), 77 IO (io), 78 IO (io), 79 IO_VREF_5 (io), 80 IO (io), 81 IO (io), 82 IO (io), 84 GCK1 (in), 85 VCCO_4 (power), 87 GCKO (in), 88 IO (io), 89 IO (io), 90 IO (io), 91 IO (io), 92 IO_VREF_4 (io), 93 IO (io), 94 IO (io), 95 VCCO_4 (power), 96 IO (io), 97 IO (io), 98 IO (io), 101 IO (io), 102 IO_VREF_4 (io), 103 IO (io), 104 IO (io), 105 IO_VREF_4 (io), 107 IO (io), 108 IO (io), 109 IO_VREF_4 (io), 110 IO (io), 111 IO (io), 112 IO (io), 115 VCCO_4 (power), 117 IO_INIT (io), 118 IO_D7 (io), 119 IO (io), 120 IO_VREF_3 (io), 121 IO (io), 122 IO (io), 124 IO_VREF_3 (io), 125 IO (io), 126 IO (io), 127 IO_VREF_3 (io), 128 IO_D6 (io), 131 IO_D5 (io), 132 IO (io), 133 VCCO_3 (power), 134 IO (io), 135 IO (io), 136 IO_VREF_3 (io), 137 IO_D4 (io), 138 IO (io), 139 IO (io), 141 IO_TRDY (io), 142 VCCO_3 (power), 144 IO_IRDY (io), 145 IO (io), 146 IO (io), 147 IO (io), 148 IO_D3 (io), 149 IO_VREF_2 (io), 150 IO (io), 151 IO (io), 152 VCCO_2 (power), 153 IO (io), 154 IO (io), 155 IO_D2 (io), 158 IO_D1 (io), 159 IO_VREF_2 (io), 160 IO (io), 161 IO (io), 162 IO_VREF_2 (io), 164 IO (io), 165 IO (io), 166 IO_VREF_2 (io), 167 IO (io), 168 IO_DIN_D0 (io), 169 IO_DOUT_BUSY (io), 171 VCCO_2 (power), 175 IO_CS (io), 176 IO_WRITE (io), 177 IO (io), 178 IO_VREF_1 (io), 179 IO (io), 181 IO_VREF_1 (io), 182 IO (io), 183 IO (io), 184 IO_VREF_1 (io), 185 IO (io), 188 IO (io), 189 IO (io), 190 IO (io), 191 VCCO_1 (power), 192 IO (io), 193 IO (io), 194 IO_VREF_1 (io), 195 IO (io), 196 IO (io), 197 IO (io), 198 IO (io), 199 GCK2 (in), 201 VCCO_1 (power), 202 GCK3 (in), 204 IO (io), 205 IO (io), 206 IO (io), 207 IO_VREF_0 (io), 208 IO (io), 209 IO (io), 210 VCCO_0 (power), 211 IO (io), 212 IO (io), 213 IO (io), 216 IO (io), 217 IO_VREF_0 (io), 218 IO (io), 219 IO (io), 220 IO_VREF_0 (io), 222 IO (io), 223 IO (io), 224 IO_VREF_0 (io), 225 IO (io), 226 IO (io), 228 VCCO_0 (power)
part B pins: 1 GND (power), 2 TMS (in), 8 GND (power), 14 GND (power), 15 VCCINT (power), 27 GND (power), 30 VCCINT (power), 41 VCCINT (power), 42 GND (power), 48 GND (power), 55 M1 (in), 56 GND (power), 57 M0 (in), 59 M2 (in), 66 GND (power), 72 GND (power), 73 VCCINT (power), 83 VCCINT (power), 86 GND (power), 99 VCCINT (power), 100 GND (power), 106 GND (power), 113 GND (power), 114 DONE (io), 116 PROGRAM (in), 123 GND (power), 129 GND (power), 130 VCCINT (power), 140 VCCINT (power), 143 GND (power), 156 VCCINT (power), 157 GND (power), 163 GND (power), 170 CCLK (io), 172 TDO (out), 173 GND (power), 174 TDI (in), 180 GND (power), 186 GND (power), 187 VCCINT (power), 200 GND (power), 203 VCCINT (power), 214 VCCINT (power), 215 GND (power), 221 GND (power), 227 TCK (in)

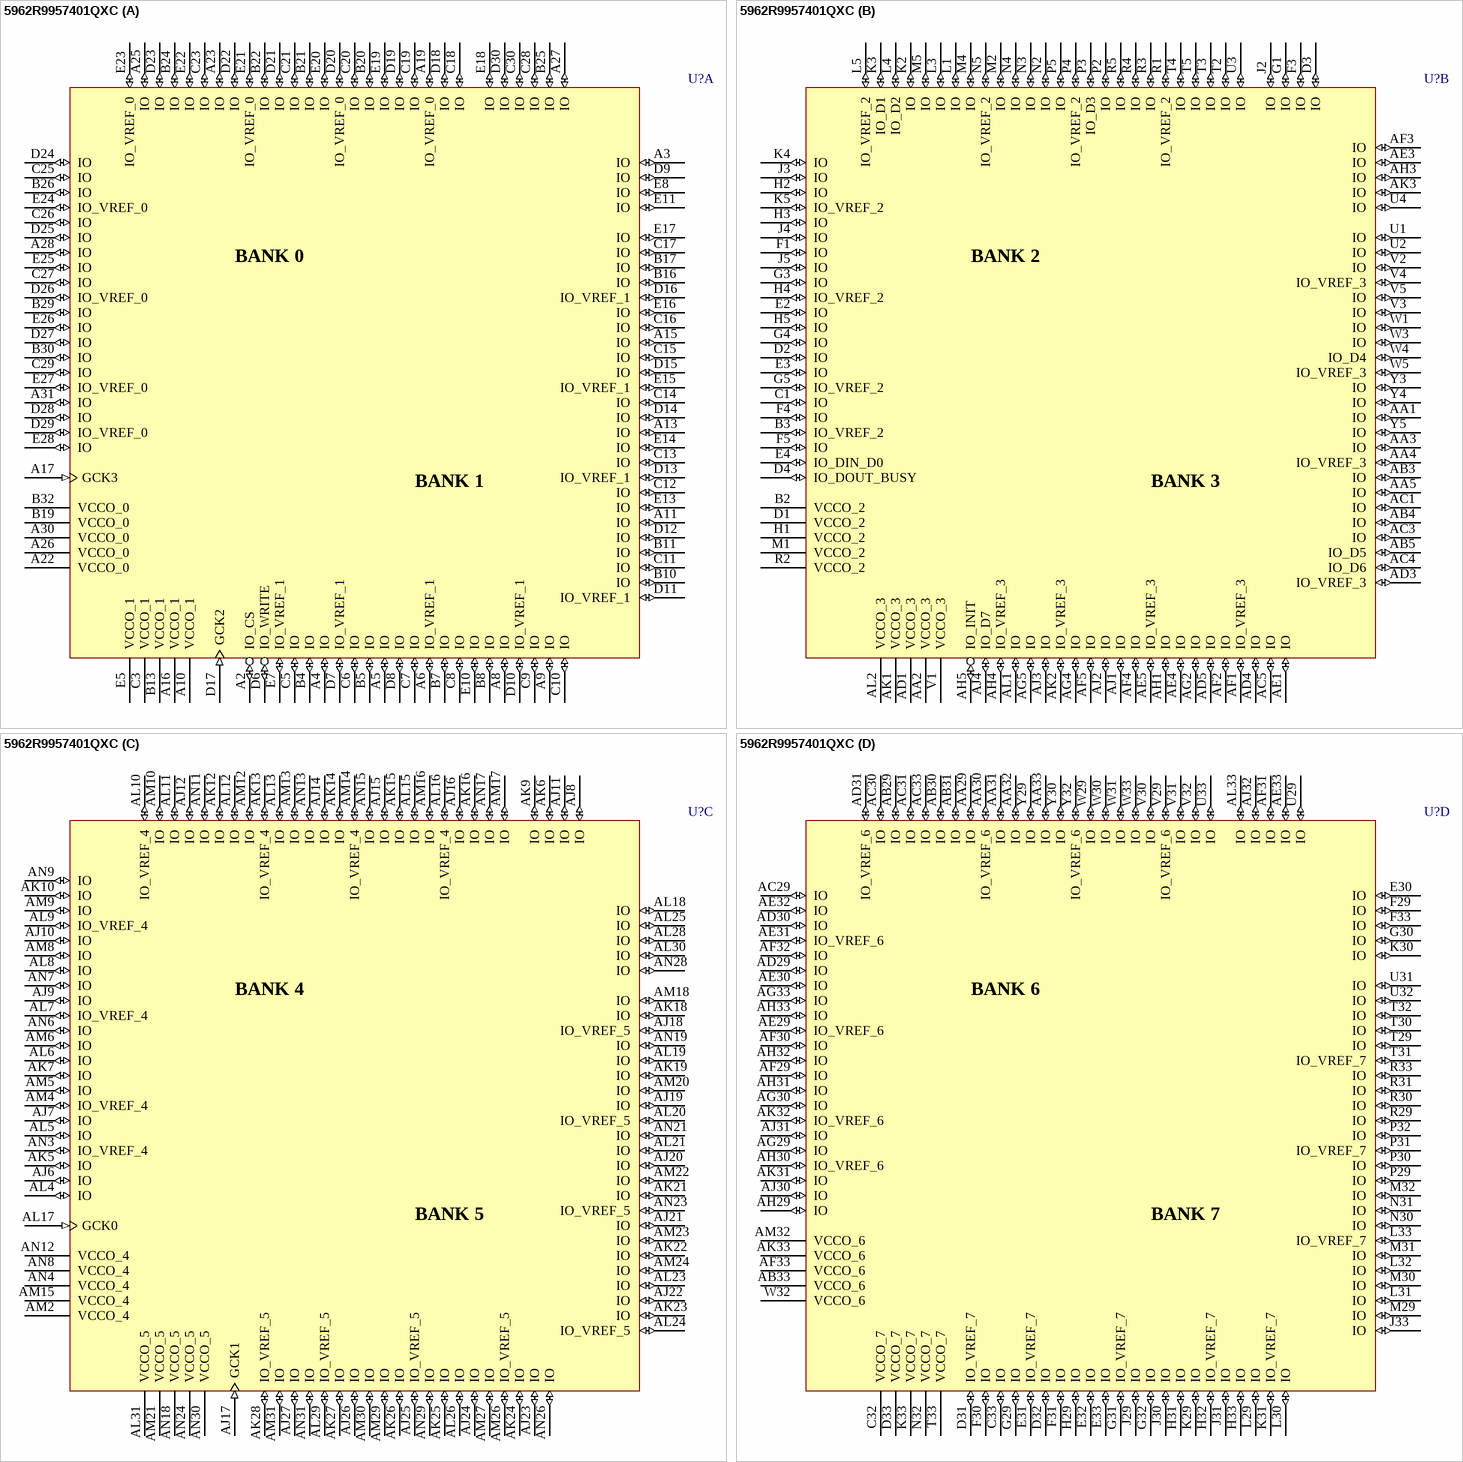
[diagram p21: symbol 5962R9957401QXC]

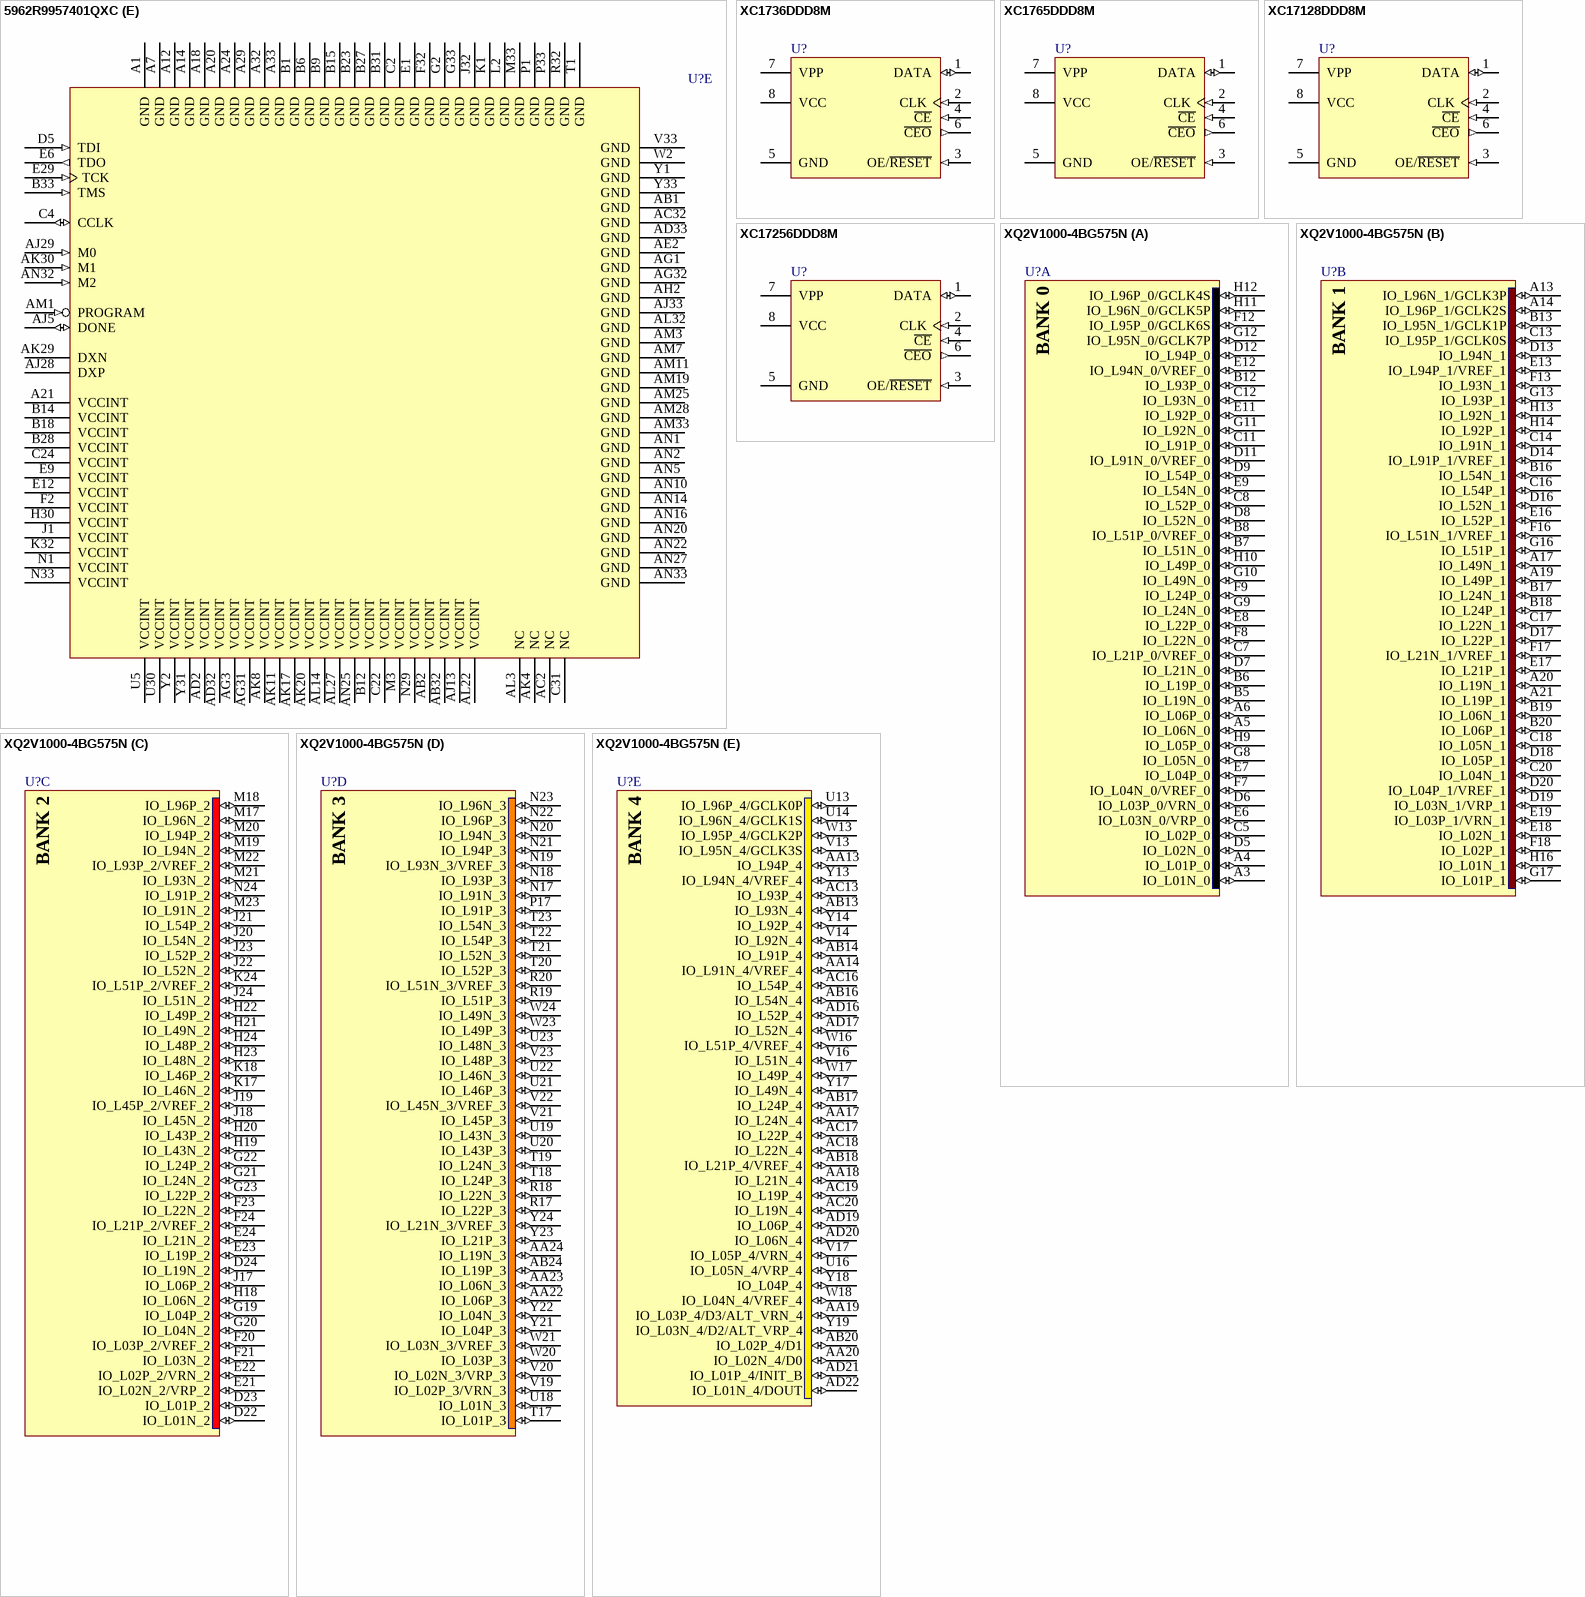
[diagram p22: symbols 5962R9957401QXC to XQ2V1000-4BG575N]

## 5962R9957401QXC
designator U?
QPro-R Virtex 2.5V Radiation Hardened FPGA, SMD Number for XQVR1000-4CG560Q, 404 User I/Os, 560-Pin Ceramic Column Grid, Speed Grade 4, MIL-PRF-38535 Grade; Published: 17-Nov-2009; DatasheetVersion: ver2.0, Jan-2010; PackageVersion: ver1.01, Oct-2002; PackageReference: CG560; Publisher: Altium Limited; PackageDescription: 560-Pin Ceramic Column Grid Array 1.27 mm Pitch; ComponentLink1Description: QPro Virtex Datasheet; ComponentLink1URL: http://www.xilinx.com/support/documentation/data_sheets/ds028.pdf; ComponentLink2Description: CG560 Package Drawing; ComponentLink2URL: http://www.xilinx.com/support/documentation/package_specs/cg560.pdf; ComponentLink3Description: Xilinx.com Home; ComponentLink3URL: http://www.xilinx.com
footprint CG560 (CGA, 560-Leads, Body 42.5x42.5mm, Pitch 1.27mm)
signal-integrity model 5962R9957401_CG560 (Virtex)
part A pins: A2 IO_CS (io), A3 IO (io), A4 IO (io), A5 IO (io), A6 IO_VREF_1 (io), A8 IO (io), A9 IO (io), A10 VCCO_1 (power), A11 IO (io), A13 IO (io), A15 IO (io), A16 VCCO_1 (power), A17 GCK3 (in), A19 IO_VREF_0 (io), A22 VCCO_0 (power), A23 IO (io), A25 IO (io), A26 VCCO_0 (power), A27 IO (io), A28 IO (io), A30 VCCO_0 (power), A31 IO (io), B4 IO (io), B5 IO (io), B7 IO (io), B8 IO (io), B10 IO (io), B11 IO (io), B13 VCCO_1 (power), B16 IO (io), B17 IO (io), B19 VCCO_0 (power), B20 IO (io), B21 IO (io), B22 IO (io), B24 IO (io), B25 IO (io), B26 IO (io), B29 IO (io), B30 IO (io), B32 VCCO_0 (power), C3 VCCO_1 (power), C5 IO (io), C6 IO (io), C7 IO (io), C8 IO (io), C9 IO (io), C10 IO (io), C11 IO (io), C12 IO (io), C13 IO (io), C14 IO (io), C15 IO (io), C16 IO (io), C17 IO (io), C18 IO (io), C19 IO (io), C20 IO (io), C21 IO (io), C23 IO (io), C25 IO (io), C26 IO (io), C27 IO (io), C28 IO (io), C29 IO (io), C30 IO (io), D6 IO_WRITE (io), D7 IO_VREF_1 (io), D8 IO (io), D9 IO (io), D10 IO_VREF_1 (io), D11 IO_VREF_1 (io), D12 IO (io), D13 IO_VREF_1 (io), D14 IO (io), D15 IO (io), D16 IO_VREF_1 (io), D17 GCK2 (in), D18 IO (io), D19 IO (io), D20 IO_VREF_0 (io), D21 IO (io), D22 IO (io), D23 IO (io), D24 IO (io), D25 IO (io), D26 IO_VREF_0 (io), D27 IO (io), D28 IO (io), D29 IO_VREF_0 (io), D30 IO (io), E5 VCCO_1 (power), E7 IO_VREF_1 (io), E8 IO (io), E10 IO (io), E11 IO (io), E13 IO (io), E14 IO (io), E15 IO_VREF_1 (io), E16 IO (io), E17 IO (io), E18 IO (io), E19 IO (io), E20 IO (io), E21 IO_VREF_0 (io), E22 IO (io), E23 IO_VREF_0 (io), E24 IO_VREF_0 (io), E25 IO (io), E26 IO (io), E27 IO_VREF_0 (io), E28 IO (io)
part B pins: AA1 IO (io), AA2 VCCO_3 (power), AA3 IO (io), AA4 IO_VREF_3 (io), AA5 IO (io), AB3 IO (io), AB4 IO (io), AB5 IO_D5 (io), AC1 IO (io), AC3 IO (io), AC4 IO_D6 (io), AC5 IO (io), AD1 VCCO_3 (power), AD3 IO_VREF_3 (io), AD4 IO (io), AD5 IO (io), AE1 IO (io), AE3 IO (io), AE4 IO (io), AE5 IO_VREF_3 (io), AF1 IO_VREF_3 (io), AF2 IO (io), AF3 IO (io), AF4 IO (io), AF5 IO (io), AG2 IO (io), AG4 IO (io), AG5 IO (io), AH1 IO (io), AH3 IO (io), AH4 IO_VREF_3 (io), AH5 IO_INIT (io), AJ1 IO (io), AJ2 IO (io), AJ3 IO (io), AJ4 IO_D7 (io), AK1 VCCO_3 (power), AK2 IO_VREF_3 (io), AK3 IO (io), AL1 IO (io), AL2 VCCO_3 (power), B2 VCCO_2 (power), B3 IO_VREF_2 (io), C1 IO (io), D1 VCCO_2 (power), D2 IO (io), D3 IO (io), D4 IO_DOUT_BUSY (io), E2 IO (io), E3 IO (io), E4 IO_DIN_D0 (io), F1 IO (io), F3 IO (io), F4 IO (io), F5 IO (io), G1 IO (io), G3 IO (io), G4 IO (io), G5 IO_VREF_2 (io), H1 VCCO_2 (power), H2 IO (io), H3 IO (io), H4 IO_VREF_2 (io), H5 IO (io), J2 IO (io), J3 IO (io), J4 IO (io), J5 IO (io), K2 IO (io), K3 IO_D1 (io), K4 IO (io), K5 IO_VREF_2 (io), L1 IO (io), L3 IO (io), L4 IO_D2 (io), L5 IO_VREF_2 (io), M1 VCCO_2 (power), M2 IO (io), M4 IO (io), M5 IO (io), N2 IO (io), N3 IO (io), N4 IO (io), N5 IO_VREF_2 (io), P2 IO (io), P3 IO_D3 (io), P4 IO_VREF_2 (io), P5 IO (io), R1 IO_VREF_2 (io), R2 VCCO_2 (power), R3 IO (io), R4 IO (io), R5 IO (io), T2 IO (io), T3 IO (io), T4 IO (io), T5 IO (io), U1 IO (io), U2 IO (io), U3 IO (io), U4 IO (io), V1 VCCO_3 (power), V2 IO (io), V3 IO (io), V4 IO_VREF_3 (io), V5 IO (io), W1 IO (io), W3 IO (io), W4 IO_D4 (io), W5 IO_VREF_3 (io), Y3 IO (io), Y4 IO (io), Y5 IO (io)
part C pins: AJ6 IO (io), AJ7 IO (io), AJ8 IO (io), AJ9 IO (io), AJ10 IO (io), AJ11 IO (io), AJ12 IO (io), AJ14 IO (io), AJ15 IO (io), AJ16 IO (io), AJ17 GCK1 (in), AJ18 IO_VREF_5 (io), AJ19 IO (io), AJ20 IO (io), AJ21 IO (io), AJ22 IO (io), AJ23 IO (io), AJ24 IO (io), AJ25 IO_VREF_5 (io), AJ26 IO (io), AJ27 IO (io), AK5 IO (io), AK6 IO (io), AK7 IO (io), AK9 IO (io), AK10 IO (io), AK12 IO (io), AK13 IO_VREF_4 (io), AK14 IO (io), AK15 IO (io), AK16 IO (io), AK18 IO (io), AK19 IO (io), AK21 IO (io), AK22 IO (io), AK23 IO (io), AK24 IO (io), AK25 IO (io), AK26 IO (io), AK27 IO (io), AK28 IO_VREF_5 (io), AL4 IO (io), AL5 IO (io), AL6 IO (io), AL7 IO_VREF_4 (io), AL8 IO (io), AL9 IO_VREF_4 (io), AL10 IO_VREF_4 (io), AL11 IO (io), AL12 IO (io), AL13 IO (io), AL15 IO (io), AL16 IO_VREF_4 (io), AL17 GCK0 (in), AL18 IO (io), AL19 IO (io), AL20 IO_VREF_5 (io), AL21 IO (io), AL23 IO (io), AL24 IO_VREF_5 (io), AL25 IO (io), AL26 IO (io), AL28 IO (io), AL29 IO_VREF_5 (io), AL30 IO (io), AL31 VCCO_5 (power), AM2 VCCO_4 (power), AM4 IO_VREF_4 (io), AM5 IO (io), AM6 IO (io), AM8 IO (io), AM9 IO (io), AM10 IO (io), AM12 IO (io), AM13 IO (io), AM14 IO_VREF_4 (io), AM15 VCCO_4 (power), AM16 IO (io), AM17 IO (io), AM18 IO (io), AM20 IO (io), AM21 VCCO_5 (power), AM22 IO (io), AM23 IO (io), AM24 IO (io), AM26 IO_VREF_5 (io), AM27 IO (io), AM29 IO (io), AM30 IO (io), AM31 IO (io), AN3 IO_VREF_4 (io), AN4 VCCO_4 (power), AN6 IO (io), AN7 IO (io), AN8 VCCO_4 (power), AN9 IO (io), AN11 IO (io), AN12 VCCO_4 (power), AN13 IO (io), AN15 IO (io), AN17 IO (io), AN18 VCCO_5 (power), AN19 IO (io), AN21 IO (io), AN23 IO_VREF_5 (io), AN24 VCCO_5 (power), AN26 IO (io), AN28 IO (io), AN29 IO (io), AN30 VCCO_5 (power), AN31 IO (io)
part D pins: AA29 IO (io), AA30 IO_VREF_6 (io), AA31 IO (io), AA32 IO (io), AA33 IO (io), AB29 IO (io), AB30 IO (io), AB31 IO (io), AB33 VCCO_6 (power), AC29 IO (io), AC30 IO (io), AC31 IO (io), AC33 IO (io), AD29 IO (io), AD30 IO (io), AD31 IO_VREF_6 (io), AE29 IO_VREF_6 (io), AE30 IO (io), AE31 IO_VREF_6 (io), AE32 IO (io), AE33 IO (io), AF29 IO (io), AF30 IO (io), AF31 IO (io), AF32 IO (io), AF33 VCCO_6 (power), AG29 IO (io), AG30 IO (io), AG33 IO (io), AH29 IO (io), AH30 IO_VREF_6 (io), AH31 IO (io), AH32 IO (io), AH33 IO (io), AJ30 IO (io), AJ31 IO (io), AJ32 IO (io), AK31 IO (io), AK32 IO_VREF_6 (io), AK33 VCCO_6 (power), AL33 IO (io), AM32 VCCO_6 (power), C32 VCCO_7 (power), C33 IO (io), D31 IO_VREF_7 (io), D32 IO (io), D33 VCCO_7 (power), E30 IO (io), E31 IO_VREF_7 (io), E32 IO (io), E33 IO (io), F29 IO (io), F30 IO (io), F31 IO (io), F33 IO (io), G29 IO (io), G30 IO (io), G31 IO_VREF_7 (io), G32 IO (io), H29 IO (io), H31 IO (io), H32 IO_VREF_7 (io), H33 IO (io), J29 IO (io), J30 IO (io), J31 IO (io), J33 IO (io), K29 IO (io), K30 IO (io), K31 IO_VREF_7 (io), K33 VCCO_7 (power), L29 IO (io), L30 IO (io), L31 IO (io), L32 IO (io), L33 IO_VREF_7 (io), M29 IO (io), M30 IO (io), M31 IO (io), M32 IO (io), N30 IO (io), N31 IO (io), N32 VCCO_7 (power), P29 IO (io), P30 IO (io), P31 IO_VREF_7 (io), P32 IO (io), R29 IO (io), R30 IO (io), R31 IO (io), R33 IO (io), T29 IO (io), T30 IO (io), T31 IO_VREF_7 (io), T32 IO (io), T33 VCCO_7 (power), U29 IO (io), U31 IO (io), U32 IO (io), U33 IO (io), V29 IO_VREF_6 (io), V30 IO (io), V31 IO (io), V32 IO (io), W29 IO (io), W30 IO (io), W31 IO (io), W32 VCCO_6 (power), W33 IO (io), Y29 IO (io), Y30 IO (io), Y32 IO_VREF_6 (io)
part E pins: A1 GND (power), A7 GND (power), A12 GND (power), A14 GND (power), A18 GND (power), A20 GND (power), A21 VCCINT (power), A24 GND (power), A29 GND (power), A32 GND (power), A33 GND (power), AB1 GND (power), AB2 VCCINT (power), AB32 VCCINT (power), AC2 NC, AC32 GND (power), AD2 VCCINT (power), AD32 VCCINT (power), AD33 GND (power), AE2 GND (power), AG1 GND (power), AG3 VCCINT (power), AG31 VCCINT (power), AG32 GND (power), AH2 GND (power), AJ5 DONE (io), AJ13 VCCINT (power), AJ28 DXP, AJ29 M0 (in), AJ33 GND (power), AK4 NC, AK8 VCCINT (power), AK11 VCCINT (power), AK17 VCCINT (power), AK20 VCCINT (power), AK29 DXN, AK30 M1 (in), AL3 NC, AL14 VCCINT (power), AL22 VCCINT (power), AL27 VCCINT (power), AL32 GND (power), AM1 PROGRAM (in), AM3 GND (power), AM7 GND (power), AM11 GND (power), AM19 GND (power), AM25 GND (power), AM28 GND (power), AM33 GND (power), AN1 GND (power), AN2 GND (power), AN5 GND (power), AN10 GND (power), AN14 GND (power), AN16 GND (power), AN20 GND (power), AN22 GND (power), AN25 VCCINT (power), AN27 GND (power), AN32 M2 (in), AN33 GND (power), B1 GND (power), B6 GND (power), B9 GND (power), B12 VCCINT (power), B14 VCCINT (power), B15 GND (power), B18 VCCINT (power), B23 GND (power), B27 GND (power), B28 VCCINT (power), B31 GND (power), B33 TMS (in), C2 GND (power), C4 CCLK (io), C22 VCCINT (power), C24 VCCINT (power), C31 NC, D5 TDI (in), E1 GND (power), E6 TDO (out), E9 VCCINT (power), E12 VCCINT (power), E29 TCK (in), F2 VCCINT (power), F32 GND (power), G2 GND (power), G33 GND (power), H30 VCCINT (power), J1 VCCINT (power), J32 GND (power), K1 GND (power), K32 VCCINT (power), L2 GND (power), M3 VCCINT (power), M33 GND (power), N1 VCCINT (power), N29 VCCINT (power), N33 VCCINT (power), P1 GND (power), P33 GND (power), R32 GND (power), T1 GND (power), U5 VCCINT (power), U30 VCCINT (power), V33 GND (power), W2 GND (power), Y1 GND (power), Y2 VCCINT (power), Y31 VCCINT (power), Y33 GND (power)
part A text: BANK 0; BANK 1
part B text: BANK 2; BANK 3
part C text: BANK 4; BANK 5
part D text: BANK 6; BANK 7

## XC1736DDD8M
designator U?
QPro XC1736 QML Configuration 5V PROM, 8-Pin Ceramic DIP, QML Certified to MIL-PRF-38535; ComponentAvailability: Discontinued. Recommended Replacement XC1765DDD8M; Published: 17-Nov-2009; DatasheetVersion: ver2.1, Jun-2000; PackageVersion: rev1.0, Apr-2001; PackageReference: DD8; Publisher: Altium Limited; PackageDescription: 8-Pin Ceramic DIP (DD8); Code_JEDEC: MO-001-AN*; ComponentLink1Description: QPRO XC1700D Datasheet; ComponentLink1URL: http://www.xilinx.com/support/documentation/data_sheets/ds070.pdf; ComponentLink2Description: Discontinuation Notice; ComponentLink2URL: http://www.xilinx.com/support/documentation/customer_notices/xcn06002.pdf; ComponentLink3Description: DD8 Package Drawing; ComponentLink3URL: http://www.xilinx.com/support/documentation/package_specs/dd8.pdf; ComponentLink4Description: Xilinx.com Home; ComponentLink4URL: http://www.xilinx.com
footprint DD8 (DIP, 8-Leads, Row Spacing 7.62mm, Pitch 2.54mm, Body 10.16x7.49mm)
signal-integrity model XC1736D_DD8 (PROM)
pins: 1 DATA (io) "Data Output.", 2 CLK (in) "Clock input for internal address counter.", 3 OE/~{RESET} (in) "Output Enable/Reset.", 4 ~{CE} (in) "Chip Enable Input.", 5 GND (power) "Ground.", 6 ~{CEO} (out) "Chip Enable Output, connects to the CE input of the next PROM in the chain.", 7 VPP (power) "Programming Voltage.  Do not leave Vpp floating!", 8 VCC (power) "Positive Supply."